# Altium schematic symbol library CompleteLibrary.SchLib: 558 symbols (part 2 of 4)
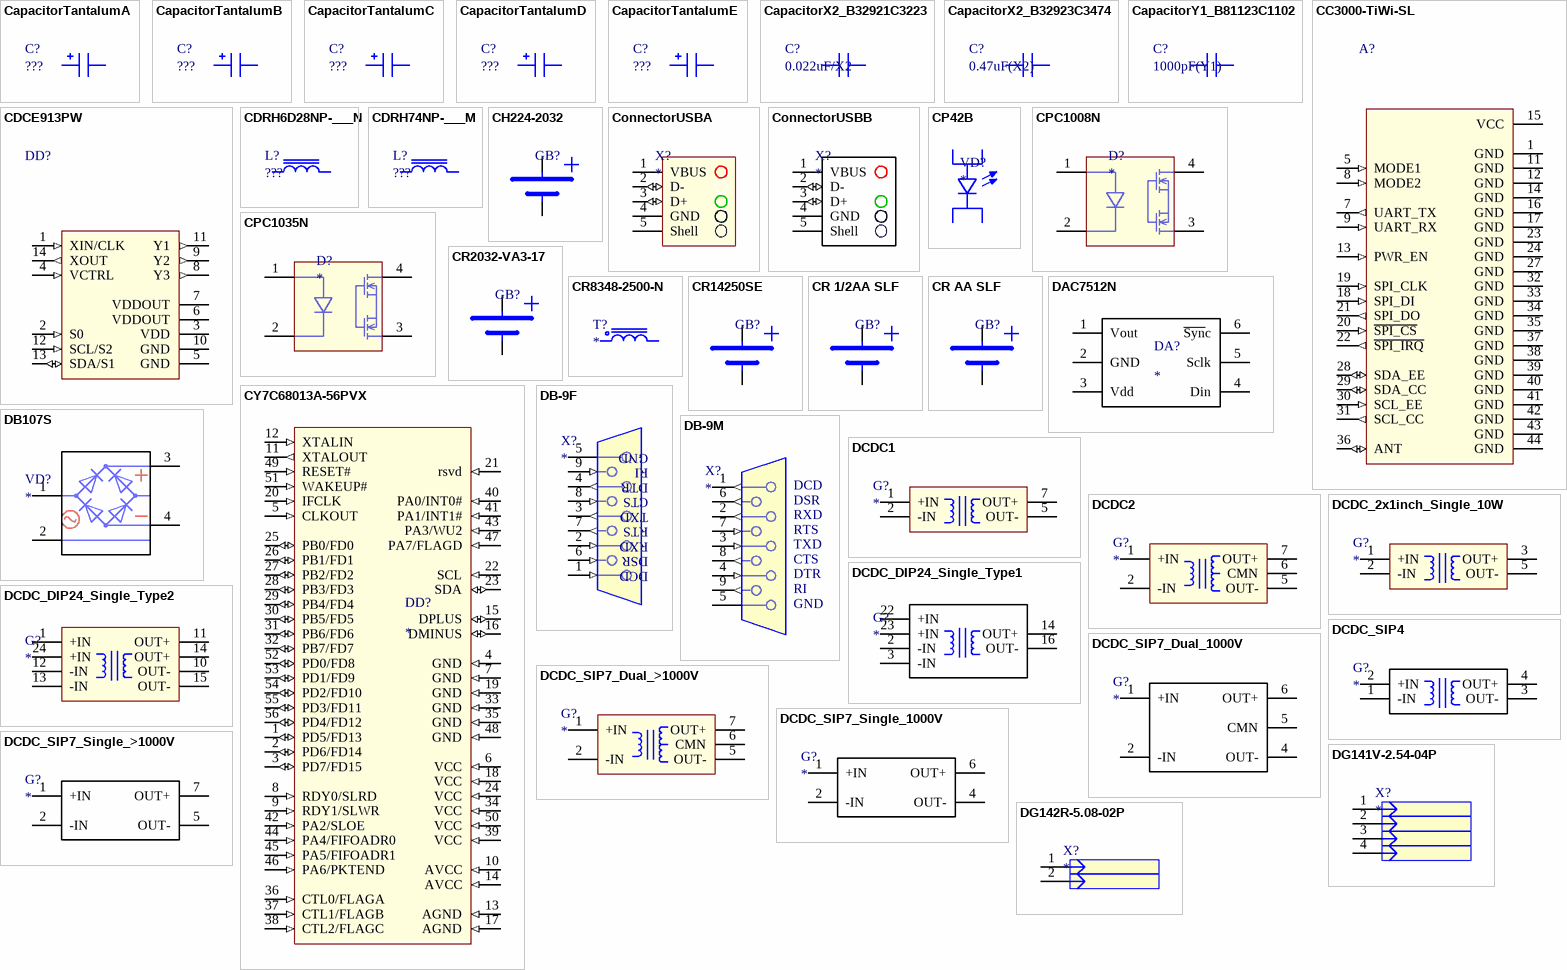
[diagram p26: symbols CapacitorTantalumA to DG142R-5.08-02P]

## CapacitorY1_B81123C1102
designator C?, comment 1000pF(Y1)
CAPACITOR EMI Suppression Capacitor (MKP) Y1 B81123C1102; Описание: Конденсатор Y1; NumberSolderPointsSMD: 0; Аналог: нет; NumberSolderPointsTHT: 0
footprint CapacitorY1_B81123C1102
pins: 1, 2

## CC3000-TiWi-SL
designator A?  (value not drawn)
MODULE RADIO Wi-Fi module; Описание: ???; NumberSolderPointsSMD: 0; Аналог: нет; NumberSolderPointsTHT: 0
footprint CC3000-TiWi-SL
pins: 1 GND (power), 5 MODE1 (in), 7 UART_TX (out), 8 MODE2 (in), 9 UART_RX (in), 11 GND (power), 12 GND (power), 13 PWR_EN (in), 14 GND (power), 15 VCC (power), 16 GND (power), 17 GND (power), 18 SPI_DI (in), 19 SPI_CLK (in), 20 ~{SPI_CS} (in), 21 SPI_DO (out), 22 ~{SPI_IRQ} (out), 23 GND (power), 24 GND (power), 27 GND (power), 28 SDA_EE (io), 29 SDA_CC (io), 30 SCL_EE (in), 31 SCL_CC (out), 32 GND (power), 33 GND (power), 34 GND (power), 35 GND (power), 36 ANT (io), 37 GND (power), 38 GND (power), 39 GND (power), 40 GND (power), 41 GND (power), 42 GND (power), 43 GND (power), 44 GND (power)

## CDCE913PW
designator DD?  (value not drawn)
IC Programmable 1-PLL VCXO Clock Synthesizer; Описание: ???; NumberSolderPointsSMD: 0; Аналог: нет; NumberSolderPointsTHT: 0
footprint TSSOP14_CDCE913
pins: 1 XIN/CLK (in), 2 S0 (in), 3 VDD (power), 4 VCTRL (in), 5 GND (power), 6 VDDOUT (power), 7 VDDOUT (power), 8 Y3 (out), 9 Y2 (out), 10 GND (power), 11 Y1 (out), 12 SCL/S2 (in), 13 SDA/S1 (io), 14 XOUT (out)

## CDRH6D28NP-___N
designator L?, comment ???
MAGNETIC Inductor SMD 6.7x6.7x2.8mm; Описание: Индуктивность SMD; NumberSolderPointsSMD: 0; Аналог: нет; x: CDRH6D28NP-101N = 100uH; NumberSolderPointsTHT: 0
footprint CDRH6D28NP-___N
pins: 1, 2

## CDRH74NP-___M
designator L?, comment ???
MAGNETIC Inductor SMD 7.2x7.2x3.2mm; Описание: Индуктивность SMD; NumberSolderPointsSMD: 0; Аналог: нет; x: CDRH74NP-101M = 100uH; NumberSolderPointsTHT: 0
footprint CDRH74NP-___M
pins: 1, 2

## CH224-2032
designator GB?  (value not drawn)
BATTERY CR2032; Описание: Литиевая батарейка; NumberSolderPointsSMD: 0; Аналог: нет; Комплект: Батарейка CR2032; NumberSolderPointsTHT: 0
footprint CH224-2032
pins: 1 +, 2 -

## ConnectorUSBA
designator X?
CONNECTOR USB type A connector (through-hole); Описание: Разъем; NumberSolderPointsSMD: 0; Аналог: нет; NumberSolderPointsTHT: 0
footprint ConnectorUSBA
pins: 1 VBUS (power), 2 D- (io), 3 D+ (io), 4 GND (power), 5 Shell

## ConnectorUSBB
designator X?
CONNECTOR USB type B connector (through-hole); Описание: Разъем; NumberSolderPointsSMD: 0; Аналог: нет; NumberSolderPointsTHT: 0
footprint ConnectorUSBB
pins: 1 VBUS (power), 2 D- (io), 3 D+ (io), 4 GND (power), 5 Shell

## CP42B
designator VD?
LED Cree P4 LED; Описание: ???; NumberSolderPointsSMD: 0; Аналог: нет; NumberSolderPointsTHT: 0
footprint CP42B
pins: 1, 2, 3, 4

## CPC1008N
designator D?
RELAY 100V 100mA 8Ohm; Описание: ???; NumberSolderPointsSMD: 0; Аналог: нет; NumberSolderPointsTHT: 0
footprint CPC1035N
pins: 1, 2, 3, 4

## CPC1035N
designator D?
RELAY Single-Pole, Normally Open SSR; Описание: ???; NumberSolderPointsSMD: 0; Аналог: нет; NumberSolderPointsTHT: 0
footprint CPC1035N
pins: 1, 2, 3, 4

## CR2032-VA3-17
designator GB?  (value not drawn)
BATTERY CR2032 LiMnO2 battery; Описание: Литиевая батарейка; NumberSolderPointsSMD: 0; Аналог: нет; NumberSolderPointsTHT: 0
footprint CR2032-VA3-17
pins: 1 +, 2 -

## CR8348-2500-N
designator T?
MAGNETIC; Описание: ???; NumberSolderPointsSMD: 0; Аналог: нет; NumberSolderPointsTHT: 0
footprint CR8348-2500-N
pins: 3, 4

## CR14250SE
designator GB?  (value not drawn)
BATTERY CR14250 LiMnO2 battery; Описание: ???; NumberSolderPointsSMD: 0; Аналог: нет; NumberSolderPointsTHT: 0
footprint CR14250SE
pins: 1 +, 2 -

## CR 1/2AA SLF
designator GB?  (value not drawn)
BATTERY CR 1/2AA SLF; Описание: ???; NumberSolderPointsSMD: 0; Аналог: нет; NumberSolderPointsTHT: 0
footprint CR 1/2AA SLF
pins: 1 +, 2 -

## CR AA SLF
designator GB?  (value not drawn)
BATTERY CR AA SLF; Описание: ???; NumberSolderPointsSMD: 0; Аналог: нет; NumberSolderPointsTHT: 0
footprint CR AA SLF
pins: 1 +, 2 -

## CY7C68013A-56PVX
designator DD?
IC USB HS peripheral; Описание: ???; NumberSolderPointsSMD: 0; Аналог: нет; NumberSolderPointsTHT: 0
footprint SSOP56_CY7C68013A
pins: 1 PD5/FD13 (io), 2 PD6/FD14 (io), 3 PD7/FD15 (io), 4 GND (in), 5 CLKOUT (in), 6 VCC (in), 7 GND (in), 8 RDY0/SLRD (in), 9 RDY1/SLWR (in), 10 AVCC (in), 11 XTALOUT (out), 12 XTALIN (in), 13 AGND (in), 14 AVCC (in), 15 DPLUS (io), 16 DMINUS (io), 17 AGND (in), 18 VCC (in), 19 GND (in), 20 IFCLK (in), 21 rsvd (in), 22 SCL (in), 23 SDA (io), 24 VCC (in), 25 PB0/FD0 (io), 26 PB1/FD1 (io), 27 PB2/FD2 (io), 28 PB3/FD3 (io), 29 PB4/FD4 (io), 30 PB5/FD5 (io), 31 PB6/FD6 (io), 32 PB7/FD7 (io), 33 GND (in), 34 VCC (in), 35 GND (in), 36 CTL0/FLAGA (in), 37 CTL1/FLAGB (in), 38 CTL2/FLAGC (in), 39 VCC (in), 40 PA0/INT0# (in), 41 PA1/INT1# (in), 42 PA2/SLOE (in), 43 PA3/WU2 (in), 44 PA4/FIFOADR0 (in), 45 PA5/FIFOADR1 (in), 46 PA6/PKTEND (in), 47 PA7/FLAGD (in), 48 GND (in), 49 RESET# (in), 50 VCC (in), 51 WAKEUP# (in), 52 PD0/FD8 (io), 53 PD1/FD9 (io), 54 PD2/FD10 (io), 55 PD3/FD11 (io), 56 PD4/FD12 (io)

## DAC7512N
designator DA?
IC DAC 12-bit; Описание: ???
footprint SOT23-6
pins: 1 Vout, 2 GND, 3 Vdd, 4 Din, 5 Sclk, 6 ~{Syn}c

## DB107S
designator VD?
DIODE 1A 1000V SMD bridge rectifier; Описание: Диод сборка; NumberSolderPointsSMD: 0; Аналог: нет; NumberSolderPointsTHT: 0
footprint DB107S
pins: 1 AC1, 2 AC2, 3 DC+, 4 DC-

## DB-9F
designator X?
CONNECTOR; Описание: ???; NumberSolderPointsSMD: 0; Аналог: нет; NumberSolderPointsTHT: 0
footprint DB-9F
pins: 1 (in), 2 (in), 3 (out), 4 (out), 5 (power), 6 (in), 7 (out), 8 (in), 9 (in)
text: GND; RI; DTR; CTS; TXD; RTS; RXD; DSR; DCD

## DB-9M
designator X?
CONNECTOR; Описание: ???; NumberSolderPointsSMD: 0; Аналог: нет; NumberSolderPointsTHT: 0
footprint DB-9M
pins: 1 (out), 2 (out), 3 (in), 4 (in), 5 (power), 6 (out), 7 (in), 8 (out), 9 (out)
text: DCD; DSR; RXD; RTS; TXD; CTS; DTR; RI; GND

## DCDC1
designator G?
TEMPLATE dc/dc single output template; Описание: Модуль питания; NumberSolderPointsSMD: 0; Аналог: нет; NumberSolderPointsTHT: 0
pins: 1 +IN (power), 2 -IN (power), 5 OUT- (power), 7 OUT+ (power)

## DCDC2
designator G?
TEMPLATE dc/dc double output template; Описание: Модуль питания; NumberSolderPointsSMD: 0; Аналог: нет; NumberSolderPointsTHT: 0
pins: 1 +IN (power), 2 -IN (power), 5 OUT- (power), 6 CMN (power), 7 OUT+ (power)

## DCDC_2x1inch_Single_10W
designator G?
MODULE POWER Generic DC/DC SIP7-package Single output Generic DC/DC SIP7-package Dual output High isolation; Описание: Модуль питания; NumberSolderPointsSMD: 0; Аналог: нет; NumberSolderPointsTHT: 0
footprint DCDC_10W
pins: 1 +IN (power), 2 -IN (power), 3 OUT+ (power), 5 OUT- (power)

## DCDC_DIP24_Single_Type1
designator G?
MODULE POWER Generic DC/DC DIP24-package Single output Type 1 pinout; Описание: Модуль питания; NumberSolderPointsSMD: 0; Аналог: нет; NumberSolderPointsTHT: 0
footprint DIP24_Type1_DCDC
pins: 2 -IN (power), 3 -IN (power), 14 OUT+ (power), 16 OUT- (power), 22 +IN (power), 23 +IN (power)

## DCDC_DIP24_Single_Type2
designator G?
MODULE POWER Generic DC/DC DIP24-package Single output Type 1 pinout; Описание: Модуль питания; NumberSolderPointsSMD: 0; Аналог: нет; NumberSolderPointsTHT: 0
footprint DIP24_Type2_DCDC
pins: 1 +IN (power), 10 OUT- (power), 11 OUT+ (power), 12 -IN (power), 13 -IN (power), 14 OUT+ (power), 15 OUT- (power), 24 +IN (power)

## DCDC_SIP4
designator G?
MODULE POWER Generic DC/DC SIP4-package  Single output; Описание: Модуль питания; NumberSolderPointsSMD: 0; Аналог: нет; NumberSolderPointsTHT: 0
footprint SIP4_DCDC
pins: 1 -IN (power), 2 +IN (power), 3 OUT- (power), 4 OUT+ (power)

## DCDC_SIP7_Dual_1000V
designator G?
MODULE POWER Generic DC/DC SIP7-package Dual output Low isolation; Описание: Модуль питания; NumberSolderPointsSMD: 0; Аналог: нет; NumberSolderPointsTHT: 0
footprint SIP7_DCDC_Dual_1000V (Low isolation voltage , double output)
pins: 1 +IN (power), 2 -IN (power), 4 OUT- (power), 5 CMN (power), 6 OUT+ (power)

## DCDC_SIP7_Dual_>1000V
designator G?
MODULE POWER Generic DC/DC SIP7-package Dual output High isolation; Описание: Модуль питания; NumberSolderPointsSMD: 0; Аналог: нет; NumberSolderPointsTHT: 0
footprint SIP7_DCDC_Dual_>1000V (High isolation voltage , double output)
pins: 1 +IN (power), 2 -IN (power), 5 OUT- (power), 6 CMN (power), 7 OUT+ (power)

## DCDC_SIP7_Single_1000V
designator G?
MODULE POWER Generic DC/DC SIP7-package Single output Generic DC/DC SIP7-package Dual output Low isolation; Описание: Модуль питания; NumberSolderPointsSMD: 0; Аналог: нет; NumberSolderPointsTHT: 0
footprint SIP7_DCDC_Single_1000V (Low isolation voltage , single output)
pins: 1 +IN (power), 2 -IN (power), 4 OUT- (power), 6 OUT+ (power)

## DCDC_SIP7_Single_>1000V
designator G?
MODULE POWER Generic DC/DC SIP7-package Single output Generic DC/DC SIP7-package Dual output High isolation; Описание: Модуль питания; NumberSolderPointsSMD: 0; Аналог: нет; NumberSolderPointsTHT: 0
footprint SIP7_DCDC_Single_>1000V (High isolation voltage , single output)
pins: 1 +IN (power), 2 -IN (power), 5 OUT- (power), 7 OUT+ (power)

## DG141V-2.54-04P
designator X?
CONNECTOR TERMINAL pitch=2.54mm; Описание: ???; NumberSolderPointsSMD: 0; Аналог: нет; NumberSolderPointsTHT: 0
footprint DG141V-2.54-04P
pins: 1, 2, 3, 4

## DG142R-5.08-02P
designator X?
CONNECTOR TERMINAL; Описание: ???; NumberSolderPointsSMD: 0; Аналог: нет; NumberSolderPointsTHT: 0
footprint DG142R-5.08-02P
pins: 1, 2

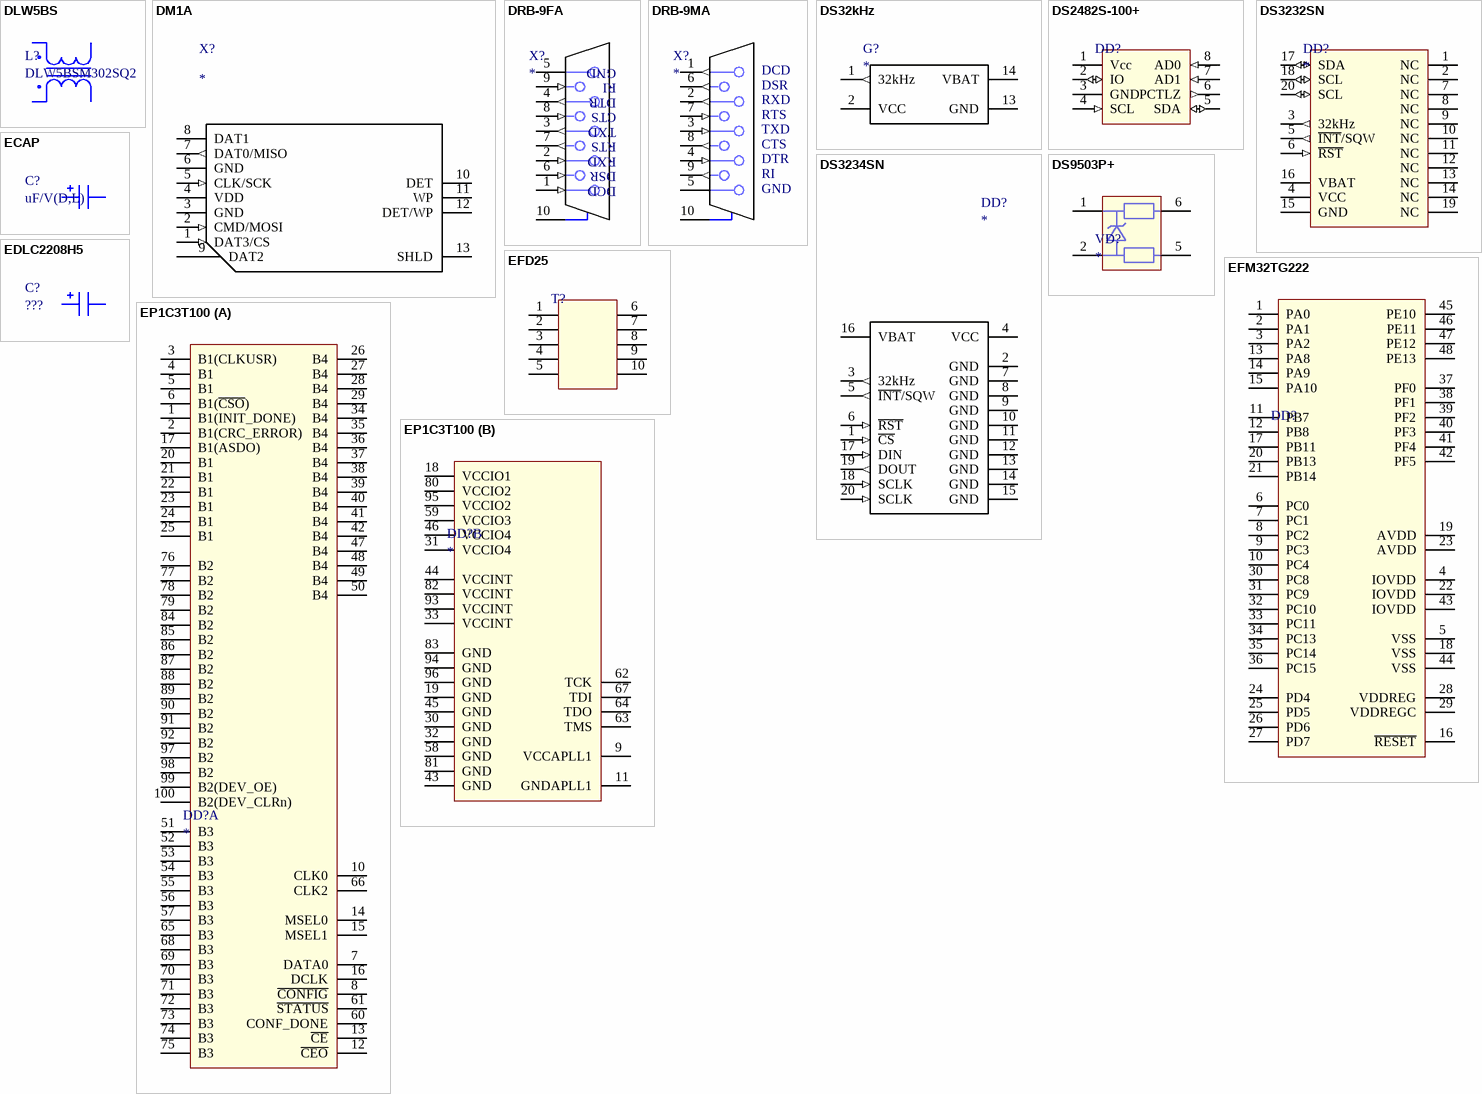
[diagram p9: symbols DLW5BS to EP1C3T100]

## DLW5BS
designator L?, comment DLW5BSM302SQ2
MAGNETIC Chip common mode choke; Описание: ???; NumberSolderPointsSMD: 0; Аналог: нет; NumberSolderPointsTHT: 0
footprint DLW5BS
pins: 1, 2, 3, 4

## DM1A
designator X?
CONNECTOR SD card connector; Описание: ???; NumberSolderPointsSMD: 0; Аналог: нет; NumberSolderPointsTHT: 0
footprint DM1A (SD card connector)
pins: 1 DAT3/CS (in), 2 CMD/MOSI (in), 3 GND, 4 VDD, 5 CLK/SCK (in), 6 GND, 7 DAT0/MISO (out), 8 DAT1, 9 DAT2, 10 DET, 11 WP, 12 DET/WP, 13 SHLD

## DRB-9FA
designator X?
CONNECTOR; Описание: ???; NumberSolderPointsSMD: 0; Аналог: нет; NumberSolderPointsTHT: 0
footprint DRB-9FA
pins: 1 (in), 2 (in), 3 (out), 4 (out), 5 (power), 6 (in), 7 (out), 8 (in), 9 (in), 10
text: GND; RI; DTR; CTS; TXD; RTS; RXD; DSR; DCD

## DRB-9MA
designator X?
CONNECTOR; Описание: ???; NumberSolderPointsSMD: 0; Аналог: нет; NumberSolderPointsTHT: 0
footprint DRB-9MA
pins: 1 (out), 2 (out), 3 (in), 4 (in), 5 (power), 6 (out), 7 (in), 8 (out), 9 (out), 10
text: DCD; DSR; RXD; RTS; TXD; CTS; DTR; RI; GND

## DS32kHz
designator G?
OSCILLATOR TCXO 32kHz; Описание: Микросхема SO16; NumberSolderPointsSMD: 0; Аналог: нет; NumberSolderPointsTHT: 0
footprint SO16W
pins: 1 32kHz (out), 2 VCC (power), 13 GND (power), 14 VBAT (power)

## DS2482S-100+
designator DD?  (value not drawn)
IC Single-Channel 1-Wire Master; Описание: Микросхема SO-8; NumberSolderPointsSMD: 0; Аналог: нет; NumberSolderPointsTHT: 0
footprint SO8
pins: 1 Vcc (power), 2 IO (io), 3 GND (power), 4 SCL (in), 5 SDA (io), 6 PCTLZ (out), 7 AD1 (in), 8 AD0 (in)

## DS3232SN
designator DD?
IC Extremely Accurate I2C RTC with  Integrated Crystal and SRAM; Описание: ???; NumberSolderPointsSMD: 0; Аналог: нет; NumberSolderPointsTHT: 0
footprint SO20W
pins: 1 NC, 2 NC, 3 32kHz (out), 4 VCC (power), 5 ~{INT}/SQW (out), 6 ~{RST} (in), 7 NC, 8 NC, 9 NC, 10 NC, 11 NC, 12 NC, 13 NC, 14 NC, 15 GND (power), 16 VBAT (power), 17 SDA (io), 18 SCL (io), 19 NC, 20 SCL (io)

## DS3234SN
designator DD?
IC Extremely Accurate SPI Bus RTC with Integrated Crystal and SRAM; Описание: ???; NumberSolderPointsSMD: 0; Аналог: нет; NumberSolderPointsTHT: 0
footprint SO20W
pins: 1 ~{CS} (in), 2 GND (power), 3 32kHz (out), 4 VCC (power), 5 ~{INT}/SQW (out), 6 ~{RST} (in), 7 GND (power), 8 GND (power), 9 GND (power), 10 GND (power), 11 GND (power), 12 GND (power), 13 GND (power), 14 GND (power), 15 GND (power), 16 VBAT (power), 17 DIN (in), 18 SCLK (in), 19 DOUT (out), 20 SCLK (in)

## DS9503P+
designator VD?
DIODE 1-wire ESD protection; Описание: Диод TSOC6; NumberSolderPointsSMD: 0; Аналог: нет; NumberSolderPointsTHT: 0
footprint TSOC6
pins: 1, 2, 5, 6

## ECAP
designator C?, comment uF/V(D,L)
CAPACITOR ECAP generic; Описание: Конденсатор электролитический; NumberSolderPointsSMD: 0; NumberSolderPointsTHT: 2; Аналог: нет; x: *
footprint ECAP_D10_L19.5_VERTICAL
pins: 1, 2

## EDLC2208H5
designator C?, comment ???
CAPACITOR EDLC 1.5F 5.5V (elna,panasonic,korchip,...); NumberSolderPointsSMD: 0; Аналог: нет; Описание: ???; NumberSolderPointsTHT: 0
footprint EDLC2208H5
pins: 1, 2

## EFD25
designator T?  (value not drawn)
MAGNETIC Epcos EFD25 coil former B66422W1010D001; Описание: ???; NumberSolderPointsSMD: 0; Аналог: нет; NumberSolderPointsTHT: 0
footprint B66422W1010D001
pins: 1  , 2  , 3  , 4  , 5  , 6  , 7  , 8  , 9  , 10  

## EFM32TG222
designator DD?  (value not drawn)
IC Cortex-M3; Описание: ???; NumberSolderPointsSMD: 0; Аналог: нет; NumberSolderPointsTHT: 0
footprint QFP48_EFM32
pins: 1 PA0, 2 PA1, 3 PA2, 4 IOVDD, 5 VSS, 6 PC0, 7 PC1, 8 PC2, 9 PC3, 10 PC4, 11 PB7, 12 PB8, 13 PA8, 14 PA9, 15 PA10, 16 ~{RESET}, 17 PB11, 18 VSS, 19 AVDD, 20 PB13, 21 PB14, 22 IOVDD, 23 AVDD, 24 PD4, 25 PD5, 26 PD6, 27 PD7, 28 VDDREG, 29 VDDREGC, 30 PC8, 31 PC9, 32 PC10, 33 PC11, 34 PC13, 35 PC14, 36 PC15, 37 PF0, 38 PF1, 39 PF2, 40 PF3, 41 PF4, 42 PF5, 43 IOVDD, 44 VSS, 45 PE10, 46 PE11, 47 PE12, 48 PE13

## EP1C3T100
designator DD?
IC Altera Cyclone1 FPGA; Описание: ???; NumberSolderPointsSMD: 0; Аналог: нет; NumberSolderPointsTHT: 0
footprint TQFP100
part A pins: 1 B1(INIT_DONE), 2 B1(CRC_ERROR), 3 B1(CLKUSR), 4 B1, 5 B1, 6 B1(~{CSO}), 7 DATA0, 8 ~{CONFIG}, 10 CLK0, 12 ~{CEO}, 13 ~{CE}, 14 MSEL0, 15 MSEL1, 16 DCLK, 17 B1(ASDO), 20 B1, 21 B1, 22 B1, 23 B1, 24 B1, 25 B1, 26 B4, 27 B4, 28 B4, 29 B4, 34 B4, 35 B4, 36 B4, 37 B4, 38 B4, 39 B4, 40 B4, 41 B4, 42 B4, 47 B4, 48 B4, 49 B4, 50 B4, 51 B3, 52 B3, 53 B3, 54 B3, 55 B3, 56 B3, 57 B3, 60 CONF_DONE, 61 ~{STATUS}, 65 B3, 66 CLK2, 68 B3, 69 B3, 70 B3, 71 B3, 72 B3, 73 B3, 74 B3, 75 B3, 76 B2, 77 B2, 78 B2, 79 B2, 84 B2, 85 B2, 86 B2, 87 B2, 88 B2, 89 B2, 90 B2, 91 B2, 92 B2, 97 B2, 98 B2, 99 B2(DEV_OE), 100 B2(DEV_CLRn)
part B pins: 9 VCCAPLL1, 11 GNDAPLL1, 18 VCCIO1, 19 GND, 30 GND, 31 VCCIO4, 32 GND, 33 VCCINT, 43 GND, 44 VCCINT, 45 GND, 46 VCCIO4, 58 GND, 59 VCCIO3, 62 TCK, 63 TMS, 64 TDO, 67 TDI, 80 VCCIO2, 81 GND, 82 VCCINT, 83 GND, 93 VCCINT, 94 GND, 95 VCCIO2, 96 GND

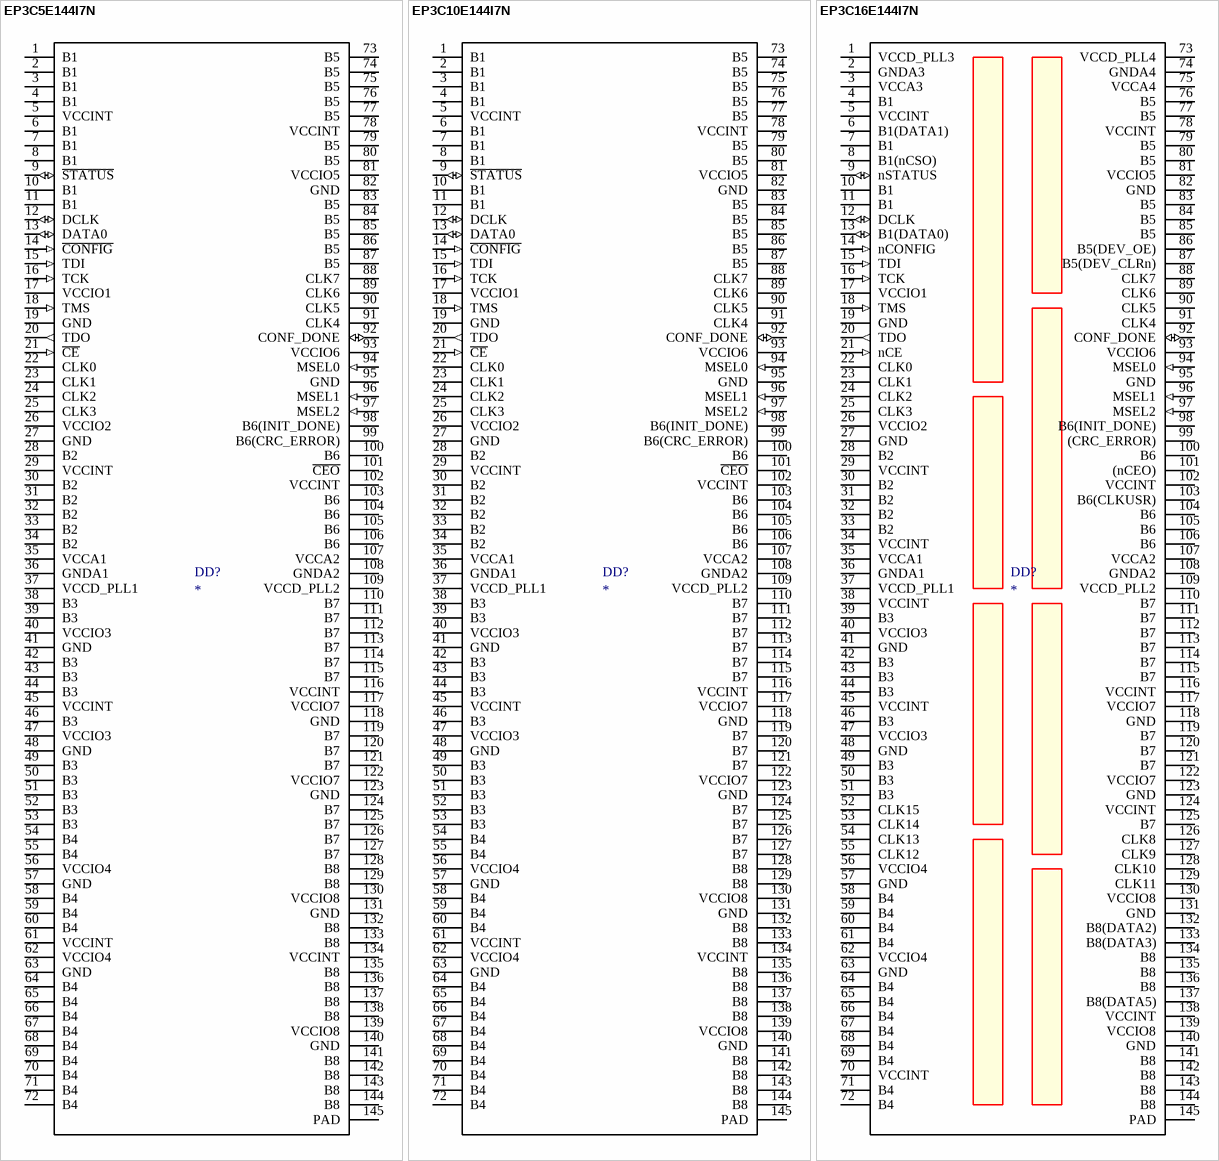
[diagram p10: symbols EP3C5E144I7N to EP3C16E144I7N]

## EP3C5E144I7N
designator DD?
IC Cyclone III; Описание: Микросхема EQFP144; NumberSolderPointsSMD: 0; Аналог: нет; NumberSolderPointsTHT: 0
footprint EQFP144_EP3C5
pins: 1 B1, 2 B1, 3 B1, 4 B1, 5 VCCINT, 6 B1, 7 B1, 8 B1, 9 ~{STATUS} (io), 10 B1, 11 B1, 12 DCLK (io), 13 DATA0 (io), 14 ~{CONFIG} (in), 15 TDI (in), 16 TCK (in), 17 VCCIO1, 18 TMS (in), 19 GND, 20 TDO (out), 21 ~{CE} (in), 22 CLK0, 23 CLK1, 24 CLK2, 25 CLK3, 26 VCCIO2, 27 GND, 28 B2, 29 VCCINT, 30 B2, 31 B2, 32 B2, 33 B2, 34 B2, 35 VCCA1, 36 GNDA1, 37 VCCD_PLL1, 38 B3, 39 B3, 40 VCCIO3, 41 GND, 42 B3, 43 B3, 44 B3, 45 VCCINT, 46 B3, 47 VCCIO3, 48 GND, 49 B3, 50 B3, 51 B3, 52 B3, 53 B3, 54 B4, 55 B4, 56 VCCIO4, 57 GND, 58 B4, 59 B4, 60 B4, 61 VCCINT, 62 VCCIO4, 63 GND, 64 B4, 65 B4, 66 B4, 67 B4, 68 B4, 69 B4, 70 B4, 71 B4, 72 B4, 73 B5, 74 B5, 75 B5, 76 B5, 77 B5, 78 VCCINT, 79 B5, 80 B5, 81 VCCIO5, 82 GND, 83 B5, 84 B5, 85 B5, 86 B5, 87 B5, 88 CLK7, 89 CLK6, 90 CLK5, 91 CLK4, 92 CONF_DONE (io), 93 VCCIO6, 94 MSEL0 (in), 95 GND, 96 MSEL1 (in), 97 MSEL2 (in), 98 B6(INIT_DONE), 99 B6(CRC_ERROR), 100 B6, 101 ~{CEO}, 102 VCCINT, 103 B6, 104 B6, 105 B6, 106 B6, 107 VCCA2, 108 GNDA2, 109 VCCD_PLL2, 110 B7, 111 B7, 112 B7, 113 B7, 114 B7, 115 B7, 116 VCCINT, 117 VCCIO7, 118 GND, 119 B7, 120 B7, 121 B7, 122 VCCIO7, 123 GND, 124 B7, 125 B7, 126 B7, 127 B7, 128 B8, 129 B8, 130 VCCIO8, 131 GND, 132 B8, 133 B8, 134 VCCINT, 135 B8, 136 B8, 137 B8, 138 B8, 139 VCCIO8, 140 GND, 141 B8, 142 B8, 143 B8, 144 B8, 145 PAD

## EP3C10E144I7N
designator DD?
IC Cyclone III; Описание: Микросхема EQFP144; NumberSolderPointsSMD: 0; Аналог: нет; NumberSolderPointsTHT: 0
footprint EQFP144_EP3C5
pins: 1 B1, 2 B1, 3 B1, 4 B1, 5 VCCINT, 6 B1, 7 B1, 8 B1, 9 ~{STATUS} (io), 10 B1, 11 B1, 12 DCLK (io), 13 DATA0 (io), 14 ~{CONFIG} (in), 15 TDI (in), 16 TCK (in), 17 VCCIO1, 18 TMS (in), 19 GND, 20 TDO (out), 21 ~{CE} (in), 22 CLK0, 23 CLK1, 24 CLK2, 25 CLK3, 26 VCCIO2, 27 GND, 28 B2, 29 VCCINT, 30 B2, 31 B2, 32 B2, 33 B2, 34 B2, 35 VCCA1, 36 GNDA1, 37 VCCD_PLL1, 38 B3, 39 B3, 40 VCCIO3, 41 GND, 42 B3, 43 B3, 44 B3, 45 VCCINT, 46 B3, 47 VCCIO3, 48 GND, 49 B3, 50 B3, 51 B3, 52 B3, 53 B3, 54 B4, 55 B4, 56 VCCIO4, 57 GND, 58 B4, 59 B4, 60 B4, 61 VCCINT, 62 VCCIO4, 63 GND, 64 B4, 65 B4, 66 B4, 67 B4, 68 B4, 69 B4, 70 B4, 71 B4, 72 B4, 73 B5, 74 B5, 75 B5, 76 B5, 77 B5, 78 VCCINT, 79 B5, 80 B5, 81 VCCIO5, 82 GND, 83 B5, 84 B5, 85 B5, 86 B5, 87 B5, 88 CLK7, 89 CLK6, 90 CLK5, 91 CLK4, 92 CONF_DONE (io), 93 VCCIO6, 94 MSEL0 (in), 95 GND, 96 MSEL1 (in), 97 MSEL2 (in), 98 B6(INIT_DONE), 99 B6(CRC_ERROR), 100 B6, 101 ~{CEO}, 102 VCCINT, 103 B6, 104 B6, 105 B6, 106 B6, 107 VCCA2, 108 GNDA2, 109 VCCD_PLL2, 110 B7, 111 B7, 112 B7, 113 B7, 114 B7, 115 B7, 116 VCCINT, 117 VCCIO7, 118 GND, 119 B7, 120 B7, 121 B7, 122 VCCIO7, 123 GND, 124 B7, 125 B7, 126 B7, 127 B7, 128 B8, 129 B8, 130 VCCIO8, 131 GND, 132 B8, 133 B8, 134 VCCINT, 135 B8, 136 B8, 137 B8, 138 B8, 139 VCCIO8, 140 GND, 141 B8, 142 B8, 143 B8, 144 B8, 145 PAD

## EP3C16E144I7N
designator DD?
IC Cyclone III; Описание: Микросхема EQFP144; NumberSolderPointsSMD: 0; Аналог: нет; NumberSolderPointsTHT: 0
footprint EQFP144_EP3C25
pins: 1 VCCD_PLL3, 2 GNDA3, 3 VCCA3, 4 B1, 5 VCCINT, 6 B1(DATA1), 7 B1, 8 B1(nCSO), 9 nSTATUS (io), 10 B1, 11 B1, 12 DCLK (io), 13 B1(DATA0) (io), 14 nCONFIG (in), 15 TDI (in), 16 TCK (in), 17 VCCIO1, 18 TMS (in), 19 GND, 20 TDO (out), 21 nCE (in), 22 CLK0, 23 CLK1, 24 CLK2, 25 CLK3, 26 VCCIO2, 27 GND, 28 B2, 29 VCCINT, 30 B2, 31 B2, 32 B2, 33 B2, 34 VCCINT, 35 VCCA1, 36 GNDA1, 37 VCCD_PLL1, 38 VCCINT, 39 B3, 40 VCCIO3, 41 GND, 42 B3, 43 B3, 44 B3, 45 VCCINT, 46 B3, 47 VCCIO3, 48 GND, 49 B3, 50 B3, 51 B3, 52 CLK15, 53 CLK14, 54 CLK13, 55 CLK12, 56 VCCIO4, 57 GND, 58 B4, 59 B4, 60 B4, 61 B4, 62 VCCIO4, 63 GND, 64 B4, 65 B4, 66 B4, 67 B4, 68 B4, 69 B4, 70 VCCINT, 71 B4, 72 B4, 73 VCCD_PLL4, 74 GNDA4, 75 VCCA4, 76 B5, 77 B5, 78 VCCINT, 79 B5, 80 B5, 81 VCCIO5, 82 GND, 83 B5, 84 B5, 85 B5, 86 B5(DEV_OE), 87 B5(DEV_CLRn), 88 CLK7, 89 CLK6, 90 CLK5, 91 CLK4, 92 CONF_DONE (io), 93 VCCIO6, 94 MSEL0 (in), 95 GND, 96 MSEL1 (in), 97 MSEL2 (in), 98 B6(INIT_DONE), 99 (CRC_ERROR), 100 B6, 101 (nCEO), 102 VCCINT, 103 B6(CLKUSR), 104 B6, 105 B6, 106 B6, 107 VCCA2, 108 GNDA2, 109 VCCD_PLL2, 110 B7, 111 B7, 112 B7, 113 B7, 114 B7, 115 B7, 116 VCCINT, 117 VCCIO7, 118 GND, 119 B7, 120 B7, 121 B7, 122 VCCIO7, 123 GND, 124 VCCINT, 125 B7, 126 CLK8, 127 CLK9, 128 CLK10, 129 CLK11, 130 VCCIO8, 131 GND, 132 B8(DATA2), 133 B8(DATA3), 134 B8, 135 B8, 136 B8, 137 B8(DATA5), 138 VCCINT, 139 VCCIO8, 140 GND, 141 B8, 142 B8, 143 B8, 144 B8, 145 PAD

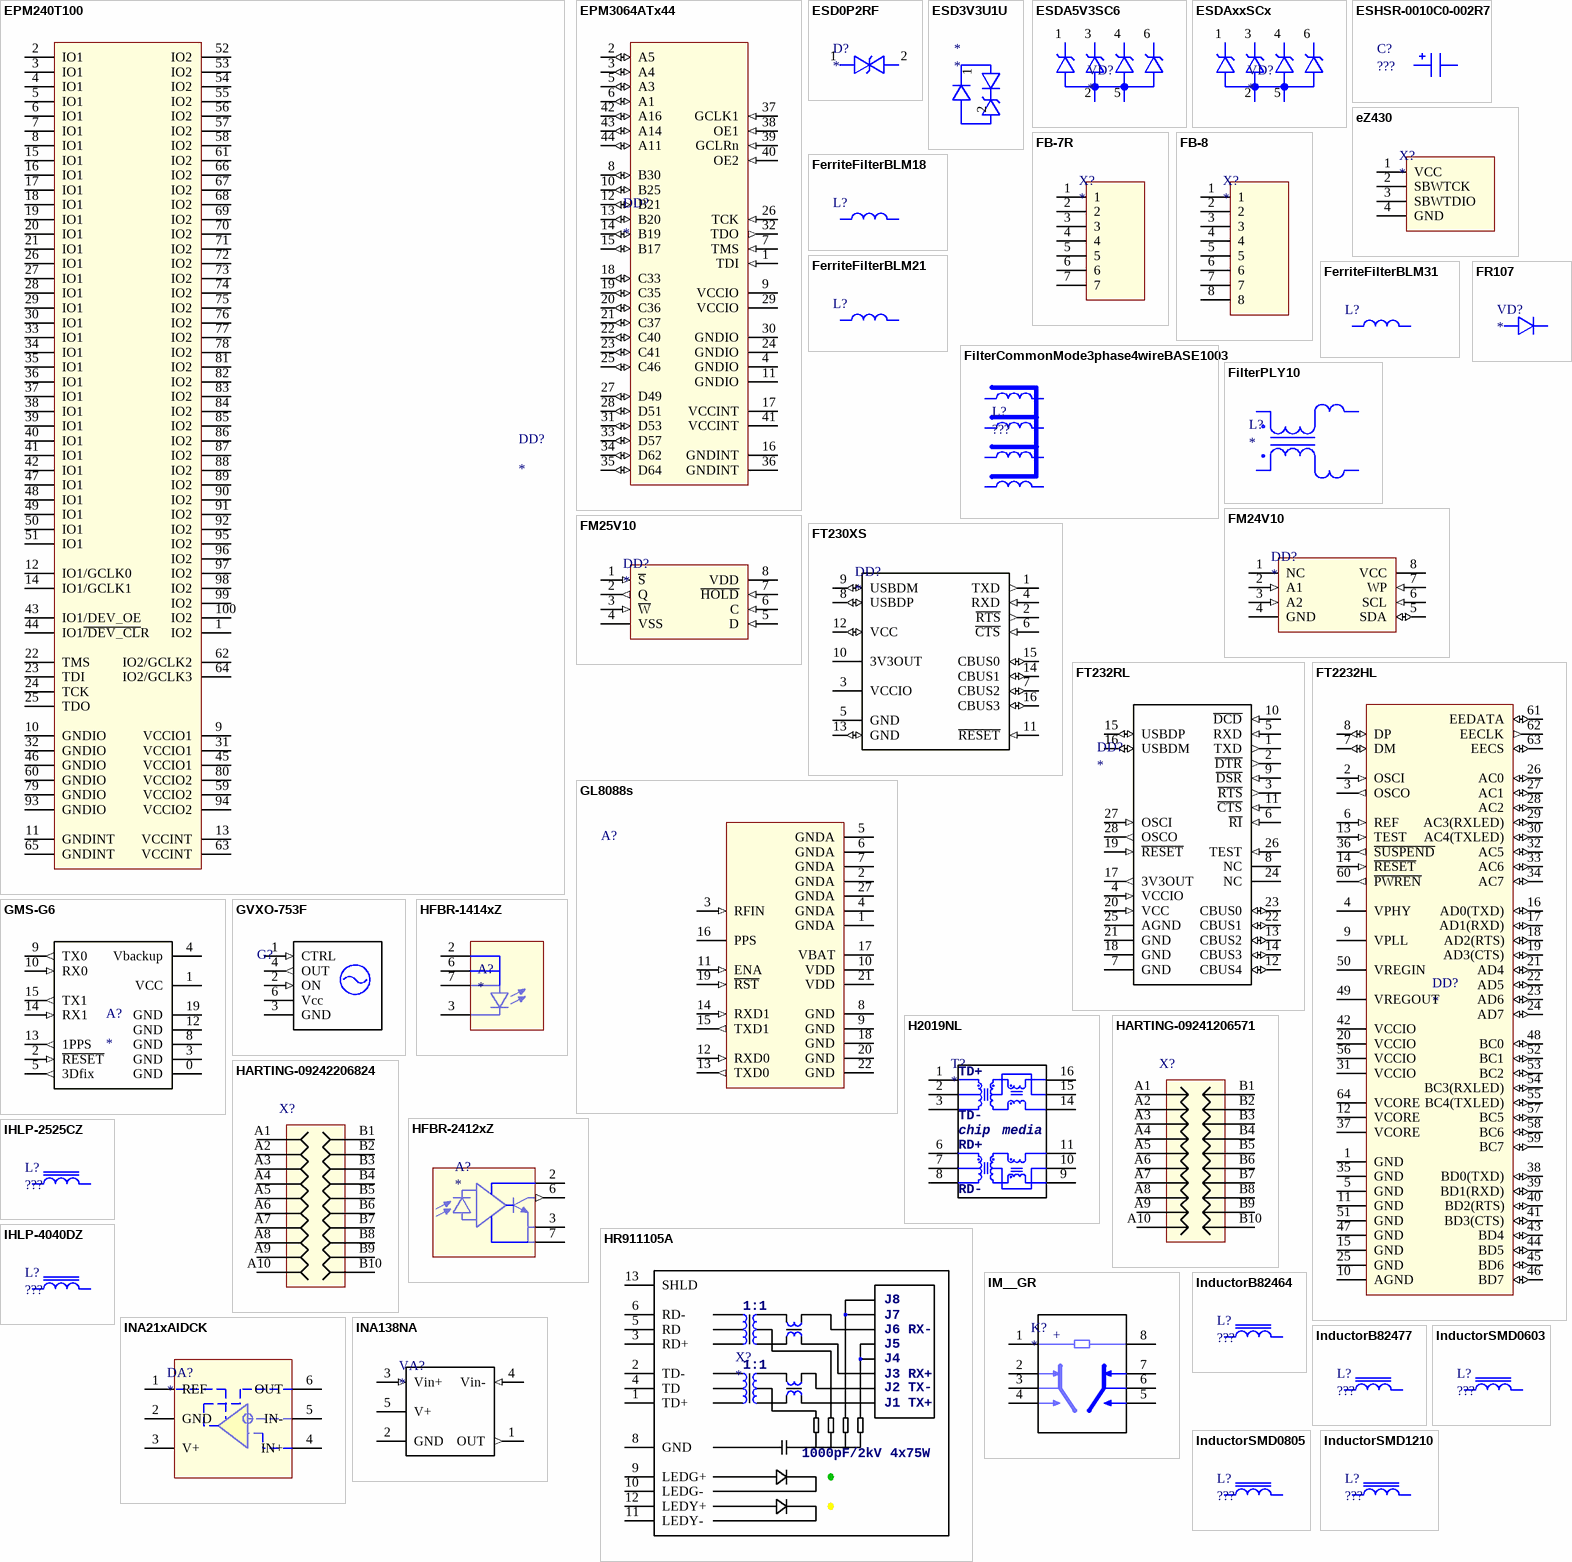
[diagram p11: symbols EPM240T100 to InductorSMD1210]

## EPM240T100
designator DD?
IC MAXII CPLD; Описание: ???; NumberSolderPointsSMD: 0; Аналог: нет; NumberSolderPointsTHT: 0
footprint TQFP100
pins: 1 IO2, 2 IO1, 3 IO1, 4 IO1, 5 IO1, 6 IO1, 7 IO1, 8 IO1, 9 VCCIO1, 10 GNDIO, 11 GNDINT, 12 IO1/GCLK0, 13 VCCINT, 14 IO1/GCLK1, 15 IO1, 16 IO1, 17 IO1, 18 IO1, 19 IO1, 20 IO1, 21 IO1, 22 TMS, 23 TDI, 24 TCK, 25 TDO, 26 IO1, 27 IO1, 28 IO1, 29 IO1, 30 IO1, 31 VCCIO1, 32 GNDIO, 33 IO1, 34 IO1, 35 IO1, 36 IO1, 37 IO1, 38 IO1, 39 IO1, 40 IO1, 41 IO1, 42 IO1, 43 IO1/DEV_OE, 44 IO1~{/DEV_CL}R, 45 VCCIO1, 46 GNDIO, 47 IO1, 48 IO1, 49 IO1, 50 IO1, 51 IO1, 52 IO2, 53 IO2, 54 IO2, 55 IO2, 56 IO2, 57 IO2, 58 IO2, 59 VCCIO2, 60 GNDIO, 61 IO2, 62 IO2/GCLK2, 63 VCCINT, 64 IO2/GCLK3, 65 GNDINT, 66 IO2, 67 IO2, 68 IO2, 69 IO2, 70 IO2, 71 IO2, 72 IO2, 73 IO2, 74 IO2, 75 IO2, 76 IO2, 77 IO2, 78 IO2, 79 GNDIO, 80 VCCIO2, 81 IO2, 82 IO2, 83 IO2, 84 IO2, 85 IO2, 86 IO2, 87 IO2, 88 IO2, 89 IO2, 90 IO2, 91 IO2, 92 IO2, 93 GNDIO, 94 VCCIO2, 95 IO2, 96 IO2, 97 IO2, 98 IO2, 99 IO2, 100 IO2

## EPM3064ATx44
designator DD?
IC Low-cost CMOS EEPROM–based CPLD; Описание: ???; NumberSolderPointsSMD: 0; Аналог: нет; NumberSolderPointsTHT: 0
footprint TQFP44_EPM30xxA
pins: 1 TDI (in), 2 A5 (io), 3 A4 (io), 4 GNDIO (power), 5 A3 (io), 6 A1 (io), 7 TMS (in), 8 B30 (io), 9 VCCIO (power), 10 B25 (io), 11 GNDIO (power), 12 B21 (io), 13 B20 (io), 14 B19 (io), 15 B17 (io), 16 GNDINT (power), 17 VCCINT (power), 18 C33 (io), 19 C35 (io), 20 C36 (io), 21 C37 (io), 22 C40 (io), 23 C41 (io), 24 GNDIO (power), 25 C46 (io), 26 TCK (in), 27 D49 (io), 28 D51 (io), 29 VCCIO (power), 30 GNDIO (power), 31 D53 (io), 32 TDO (out), 33 D57 (io), 34 D62 (io), 35 D64 (io), 36 GNDINT (power), 37 GCLK1 (in), 38 OE1 (in), 39 GCLRn (in), 40 OE2 (in), 41 VCCINT (power), 42 A16 (io), 43 A14 (io), 44 A11 (io)

## ESD0P2RF
designator D?
DIODE TVS directional Ultra Low Capacitance TVS Diode; Описание: ???; NumberSolderPointsSMD: 0; Аналог: нет; NumberSolderPointsTHT: 0
footprint TSLP-2-17
pins: 1, 2

## ESD3V3U1U
designator *
DIODE TVS Ultra-Low Capacitance TVS Diode; Описание: ???; NumberSolderPointsSMD: 0; Аналог: нет; NumberSolderPointsTHT: 0
footprint TSLP-2-17
pins: 1, 2

## ESDA5V3SC6
designator VD?
DIODE TVS; Описание: ???; NumberSolderPointsSMD: 0; Аналог: нет; NumberSolderPointsTHT: 0
footprint SOT23-6
pins: 1, 2, 3, 4, 5, 6

## ESDAxxSCx
designator VD?
DIODE TVS Quad Transil array for ESD protection; Описание: ???; NumberSolderPointsSMD: 0; Аналог: нет; NumberSolderPointsTHT: 0
footprint SOT23-6
pins: 1, 2, 3, 4, 5, 6

## ESHSR-0010C0-002R7
designator C?, comment ???
CAPACITOR Supercapacitor 10F; NumberSolderPointsSMD: 0; Аналог: нет; Описание: ???; NumberSolderPointsTHT: 0
footprint ESHSR-0010C0-002R7
pins: 1, 2

## eZ430
designator X?
CONNECTOR PROGRAM; Описание: ???; NumberSolderPointsSMD: 0; Аналог: нет; NumberSolderPointsTHT: 0
footprint eZ430
pins: 1 VCC, 2 SBWTCK, 3 SBWTDIO, 4 GND

## FB-7R
designator X?
CONNECTOR FFC pitch=2.54mm; Описание: ???; NumberSolderPointsSMD: 0; Аналог: нет; NumberSolderPointsTHT: 0
footprint FB-7R
pins: 1, 2, 3, 4, 5, 6, 7

## FB-8
designator X?
CONNECTOR FFC pitch=2.54mm; Описание: ???; NumberSolderPointsSMD: 0; Аналог: нет; NumberSolderPointsTHT: 0
footprint FB-8
pins: 1, 2, 3, 4, 5, 6, 7, 8

## FerriteFilterBLM18
designator L?  (value not drawn)
MAGNETIC BLM18 series ferrite bead SMD 0603; Описание: Фильтр SMD 0603; NumberSolderPointsSMD: 0; Аналог: нет; NumberSolderPointsTHT: 0
footprint InductorSMD0603(reflow)
pins: 1, 2

## FerriteFilterBLM21
designator L?  (value not drawn)
MAGNETIC BLM21 series ferrite bead SMD 0805; Описание: Фильтр SMD 0805; NumberSolderPointsSMD: 0; Аналог: нет; NumberSolderPointsTHT: 0
footprint InductorSMD0805(reflow)
pins: 1, 2

## FerriteFilterBLM31
designator L?  (value not drawn)
MAGNETIC BLM31 series ferrite bead SMD 1206; Описание: Фильтр SMD 1206; NumberSolderPointsSMD: 0; Аналог: нет; NumberSolderPointsTHT: 0
footprint InductorSMD1206(reflow)
pins: 1, 2

## FilterCommonMode3phase4wireBASE1003
designator L?, comment ???
MAGNETIC Inductor SMD 0805; NumberSolderPointsSMD: 0; Аналог: нет; Описание: ???; NumberSolderPointsTHT: 0
footprint BEC_BASE1003
pins: 2, 3, 4, 5, 8, 9, 10, 11

## FilterPLY10
designator L?
MAGNETIC Mains filter; Описание: ???; NumberSolderPointsSMD: 0; Аналог: нет; NumberSolderPointsTHT: 0
footprint PLY10
pins: 1, 2, 3, 4

## FM24V10
designator DD?
IC 1Mb Serial 3V F-RAM Memory; Описание: ???; NumberSolderPointsSMD: 0; Аналог: нет; NumberSolderPointsTHT: 0
footprint SO8
pins: 1 NC, 2 A1 (in), 3 A2 (in), 4 GND (power), 5 SDA (io), 6 SCL (in), 7 WP (in), 8 VCC (power)

## FM25V10
designator DD?
IC 1Mb Serial 3V F-RAM Memory; Описание: ???; NumberSolderPointsSMD: 0; Аналог: нет; NumberSolderPointsTHT: 0
footprint SO8
pins: 1 ~{S} (in), 2 Q (out), 3 ~{W} (in), 4 VSS (power), 5 D (in), 6 C (in), 7 ~{HOLD} (in), 8 VDD (power)

## FR107
designator VD?
DIODE 1.0 fast recovery rectifier; Описание: ???; NumberSolderPointsSMD: 0; Аналог: нет; NumberSolderPointsTHT: 0
footprint DO41_FR107
pins: 1, 2

## FT230XS
designator DD?
IC Full Speed USB to Basic UART; Описание: Микросхема SSOP16; NumberSolderPointsSMD: 0; Аналог: нет; NumberSolderPointsTHT: 0; x: *
footprint SSOP16
pins: 1 TXD (out), 2 ~{RTS} (out), 3 VCCIO (power), 4 RXD (in), 5 GND (power), 6 ~{CTS} (in), 7 CBUS2 (io), 8 USBDP (io), 9 USBDM (io), 10 3V3OUT (power), 11 ~{RESET} (in), 12 VCC (io), 13 GND (io), 14 CBUS1 (io), 15 CBUS0 (io), 16 CBUS3 (io)

## FT232RL
designator DD?
IC USB UART IC; Описание: Микросхема SSOP28; NumberSolderPointsSMD: 0; Аналог: нет; NumberSolderPointsTHT: 0
footprint SSOP28_FT232RL
pins: 1 TXD (out), 2 ~{DTR} (out), 3 ~{RTS} (out), 4 VCCIO (in), 5 RXD (in), 6 ~{RI} (in), 7 GND (power), 8 NC, 9 ~{DSR} (in), 10 ~{DCD} (in), 11 ~{CTS} (in), 12 CBUS4 (io), 13 CBUS2 (io), 14 CBUS3 (io), 15 USBDP (io), 16 USBDM (io), 17 3V3OUT (out), 18 GND (power), 19 ~{RESET} (in), 20 VCC (in), 21 GND (power), 22 CBUS1 (io), 23 CBUS0 (io), 24 NC, 25 AGND (power), 26 TEST (in), 27 OSCI (in), 28 OSCO (out)

## FT2232HL
designator DD?
IC Dual High Speed USB to Multipurpose UART/FIFO IC; Описание: ???; NumberSolderPointsSMD: 0; Аналог: нет; NumberSolderPointsTHT: 0
footprint LQFP64_FT2232HL
pins: 1 GND (power), 2 OSCI (in), 3 OSCO (out), 4 VPHY (power), 5 GND (power), 6 REF (in), 7 DM (io), 8 DP (io), 9 VPLL (power), 10 AGND (power), 11 GND (power), 12 VCORE (power), 13 TEST (in), 14 ~{RESET} (in), 15 GND (power), 16 AD0(TXD) (io), 17 AD1(RXD) (io), 18 AD2(RTS) (io), 19 AD3(CTS) (io), 20 VCCIO (power), 21 AD4 (io), 22 AD5 (io), 23 AD6 (io), 24 AD7 (io), 25 GND (power), 26 AC0 (io), 27 AC1 (io), 28 AC2 (io), 29 AC3(RXLED) (io), 30 AC4(TXLED) (io), 31 VCCIO (power), 32 AC5 (io), 33 AC6 (io), 34 AC7 (io), 35 GND (power), 36 ~{SUSPEND} (out), 37 VCORE (power), 38 BD0(TXD) (io), 39 BD1(RXD) (io), 40 BD2(RTS) (io), 41 BD3(CTS) (io), 42 VCCIO (power), 43 BD4 (io), 44 BD5 (io), 45 BD6 (io), 46 BD7 (io), 47 GND (power), 48 BC0 (io), 49 VREGOUT (power), 50 VREGIN (power), 51 GND (power), 52 BC1 (io), 53 BC2 (io), 54 BC3(RXLED) (io), 55 BC4(TXLED) (io), 56 VCCIO (power), 57 BC5 (io), 58 BC6 (io), 59 BC7 (io), 60 ~{PWREN} (out), 61 EEDATA (io), 62 EECLK (out), 63 EECS (io), 64 VCORE (power)

## GL8088s
designator A?  (value not drawn)
MODULE RADIO GPS/GLONASS; Описание: ???; NumberSolderPointsSMD: 0; Аналог: нет; NumberSolderPointsTHT: 0
footprint GL8088s
pins: 1 GNDA (power), 2 GNDA (power), 3 RFIN (in), 4 GNDA (power), 5 GNDA (power), 6 GNDA (power), 7 GNDA (power), 8 GND (power), 9 GND (power), 10 VDD (power), 11 ENA (in), 12 RXD0 (in), 13 TXD0 (out), 14 RXD1 (in), 15 TXD1 (out), 16 PPS, 17 VBAT (power), 18 GND (power), 19 ~{RST} (in), 20 GND (power), 21 VDD (power), 22 GND (power), 27 GNDA (power)

## GMS-G6
designator A?
MODULE RADIO GPS/GLONASS; Аналог: нет; Описание: Радио-модуль
footprint GMS-G6
pins: 0 GND, 1 VCC, 2 ~{RESET} (in), 3 GND, 4 Vbackup, 5 3Dfix (out), 8 GND, 9 TX0 (out), 10 RX0 (in), 12 GND, 13 1PPS (out), 14 RX1 (in), 15 TX1 (out), 19 GND

## GVXO-753F
designator G?
OSCILLATOR VCXO; Описание: Кварц. генератор SMD; NumberSolderPointsSMD: 0; Аналог: нет; NumberSolderPointsTHT: 0
footprint GVXO-753F
pins: 1 CTRL (in), 2 ON (in), 3 GND (power), 4 OUT (out), 6 Vcc (power)

## H2019NL
designator T?
MAGNETIC 10/100BASE-TX Magnetic Module (PoE); Описание: Трансформатор SO16; NumberSolderPointsSMD: 0; Аналог: нет; NumberSolderPointsTHT: 0
footprint SO16W_H2019NL
pins: 1  , 2  , 3  , 4 NC hidden, 5 NC hidden, 6  , 7  , 8  , 9, 10  , 11  , 12 NC hidden, 13 NC hidden, 14  , 15  , 16  
text: TD+; TD-; chip; media; RD+; RD-

## HARTING-09241206571
designator X?  (value not drawn)
CONNECTOR DIN41612 20-pin male connector without flange; Описание: ???; NumberSolderPointsSMD: 0; Аналог: нет; NumberSolderPointsTHT: 0
footprint HARTING-09241206571
pins: A1  , A2  , A3  , A4  , A5  , A6  , A7  , A8  , A9  , A10  , B1  , B2  , B3  , B4  , B5  , B6  , B7  , B8  , B9  , B10  

## HARTING-09242206824
designator X?  (value not drawn)
CONNECTOR DIN41612 20-pin female connector with flange; Описание: ???; NumberSolderPointsSMD: 0; Аналог: нет; NumberSolderPointsTHT: 0
footprint HARTING-09242206824
pins: A1  , A2  , A3  , A4  , A5  , A6  , A7  , A8  , A9  , A10  , B1  , B2  , B3  , B4  , B5  , B6  , B7  , B8  , B9  , B10  

## HFBR-1414xZ
designator A?
CONNECTOR FIBER 820 nm ST-connector transmitter; Описание: ???; NumberSolderPointsSMD: 0; Аналог: нет; NumberSolderPointsTHT: 0
footprint HFBR-x41xZ
pins: 2, 3, 6, 7

## HFBR-2412xZ
designator A?
CONNECTOR FIBER 820 nm ST-connector receiver; Описание: ???; NumberSolderPointsSMD: 0; Аналог: нет; NumberSolderPointsTHT: 0
footprint HFBR-x41xZ
pins: 2 (power), 3 (power), 6 (out), 7 (power)

## HR911105A
designator X?
CONNECTOR RJ45; Описание: Разъем; NumberSolderPointsSMD: 0; Аналог: нет; NumberSolderPointsTHT: 0
footprint HR911105A
pins: 1 TD+, 2 TD-, 3 RD+, 4 TD, 5 RD, 6 RD-, 8 GND, 9 LEDG+, 10 LEDG-, 11 LEDY-, 12 LEDY+, 13 SHLD
text: J8; 1:1; J7; J6 RX-; J5; J4; J3 RX+; J2 TX-; J1 TX+; 1000pF/2kV; 4x75W

## IHLP-2525CZ
designator L?, comment ???
MAGNETIC Inductor SMD 2525 h=3mm; Описание: Индуктивность SMD 2525; NumberSolderPointsSMD: 0; Аналог: нет; NumberSolderPointsTHT: 0
footprint IHLP-2525DZ(manual/normal)
pins: 1, 2

## IHLP-4040DZ
designator L?, comment ???
MAGNETIC Inductor SMD 4040 h=4mm; Описание: Индуктивность SMD 2525; NumberSolderPointsSMD: 0; Аналог: нет; NumberSolderPointsTHT: 0
footprint IHLP-4040DZ(manual/normal)
footprint IHLP-4040DZ(manual/deep1.5mm)
pins: 1, 2

## IM__GR
designator K?
RELAY smd signal relay; Описание: Реле; NumberSolderPointsSMD: 0; x: IM03GR(5VDC), IM01GR (3VDC); NumberSolderPointsTHT: 0
footprint IMxxGR
pins: 1, 2, 3, 4, 5, 6, 7, 8
text: +

## INA21xAIDCK
designator DA?
IC current shunt monitor; Описание: ???; NumberSolderPointsSMD: 0; Аналог: нет; NumberSolderPointsTHT: 0
footprint SC70-6
pins: 1 REF, 2 GND, 3 V+, 4 IN+, 5 IN- (power), 6 OUT (power)

## INA138NA
designator VA?
IC High-Side Current Shunt Monitor 2.7...36V; Описание: Микросхема SOT23-5; NumberSolderPointsSMD: 0; Аналог: нет; x: INA138; NumberSolderPointsTHT: 0
footprint SOT23-5
pins: 1 OUT (out), 2 GND (power), 3 Vin+ (in), 4 Vin- (in), 5 V+ (power)

## InductorB82464
designator L?, comment ???
MAGNETIC Epcos B82464 Inductor SMD 10.4x10.4mm; NumberSolderPointsSMD: 0; Аналог: нет; Описание: ???; NumberSolderPointsTHT: 0
footprint B82464
pins: 1, 2

## InductorB82477
designator L?, comment ???
MAGNETIC Epcos B82477 Inductor SMD 12.8x12.8mm; Описание: Индуктивность; NumberSolderPointsSMD: 0; Аналог: нет; NumberSolderPointsTHT: 0
footprint B82477
pins: 1, 2

## InductorSMD0603
designator L?, comment ???
MAGNETIC Inductor SMD 0603; Описание: Индуктивность SMD0603; NumberSolderPointsSMD: 0; Аналог: нет; NumberSolderPointsTHT: 0
footprint InductorSMD0603(reflow)
footprint InductorSMD0603(manual)
pins: 1, 2

## InductorSMD0805
designator L?, comment ???
MAGNETIC Inductor SMD 0805; NumberSolderPointsSMD: 0; Аналог: Индуктивность SMD0805; Описание: ???; NumberSolderPointsTHT: 0
footprint InductorSMD0805(reflow)
pins: 1, 2

## InductorSMD1210
designator L?, comment ???
MAGNETIC Inductor SMD 1210; Описание: Индуктивность SMD1210; NumberSolderPointsSMD: 0; x: LQH32CN4R7; NumberSolderPointsTHT: 0
footprint InductorSMD1210(reflow)
footprint InductorSMD1210(manual,LQH32)
pins: 1, 2

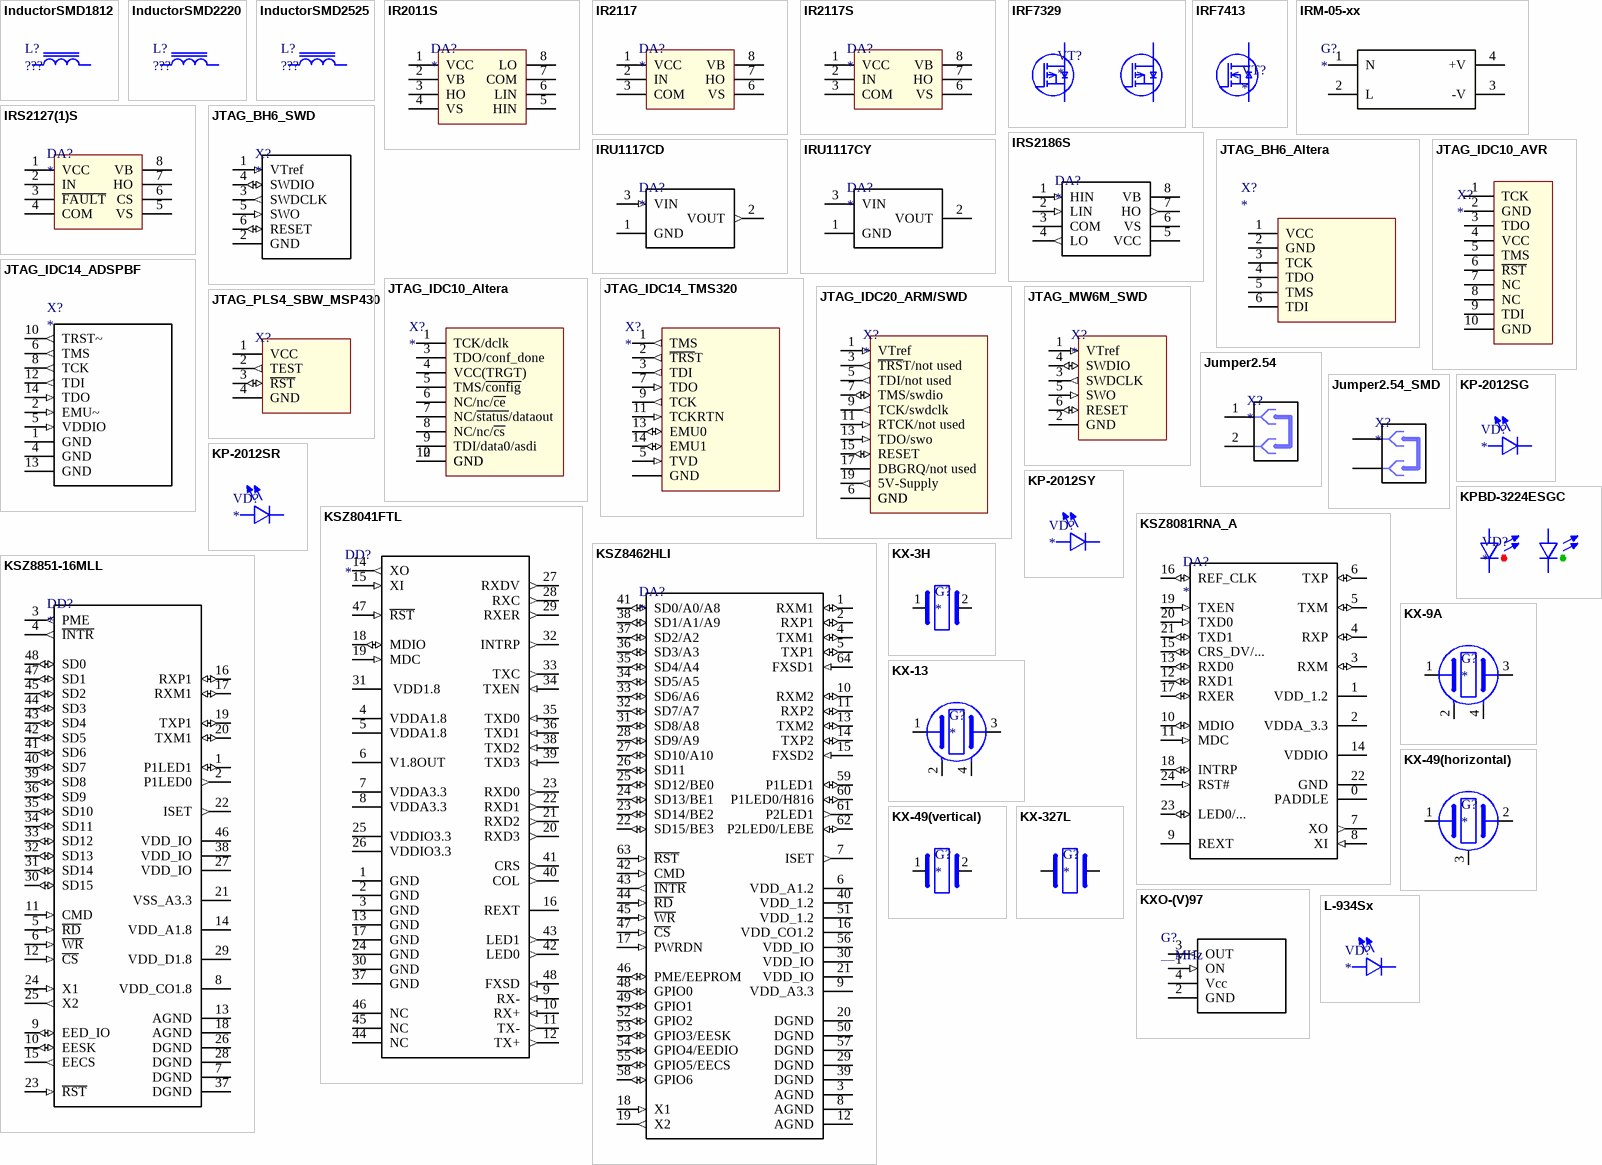
[diagram p12: symbols InductorSMD1812 to L-934Sx]

## InductorSMD1812
designator L?, comment ???
MAGNETIC Inductor SMD 1812; NumberSolderPointsSMD: 0; Аналог: нет; Описание: ???; NumberSolderPointsTHT: 0
pins: 1, 2

## InductorSMD2220
designator L?, comment ???
MAGNETIC Inductor SMD 2220; NumberSolderPointsSMD: 0; Аналог: нет; Описание: ???; NumberSolderPointsTHT: 0
footprint InductorSMD2220
pins: 1, 2

## InductorSMD2525
designator L?, comment ???
MAGNETIC Inductor SMD 2525; Описание: Индуктивность SMD 2525; NumberSolderPointsSMD: 0; Аналог: нет; NumberSolderPointsTHT: 0
footprint InductorSMD2525
pins: 1, 2

## IR2011S
designator DA?
IC High and low side gate driver; Описание: ???; NumberSolderPointsSMD: 0; Аналог: нет; NumberSolderPointsTHT: 0
footprint SO8
pins: 1 VCC, 2 VB, 3 HO, 4 VS, 5 HIN, 6 LIN, 7 COM, 8 LO

## IR2117
designator DA?
IC Single channel gate driver; Описание: ???; NumberSolderPointsSMD: 0; Аналог: нет; NumberSolderPointsTHT: 0
footprint DIP8_ATTINY13
pins: 1 VCC, 2 IN, 3 COM, 6 VS, 7 HO, 8 VB

## IR2117S
designator DA?
IC Single channel gate driver; Описание: ???; NumberSolderPointsSMD: 0; Аналог: нет; NumberSolderPointsTHT: 0
footprint SO8
pins: 1 VCC, 2 IN, 3 COM, 6 VS, 7 HO, 8 VB

## IRF7329
designator VT?
TRANSISTOR MOSFET dual P; Описание: ???; NumberSolderPointsSMD: 0; Аналог: нет; NumberSolderPointsTHT: 0
footprint SO8
pins: 1 S, 2 G, 3 S, 4 G, 5 D, 6 D, 7 D, 8 D

## IRF7413
designator VT?
TRANSISTOR MOSFET N 30V 0.01ohm; Описание: Транзистор SO8; NumberSolderPointsSMD: 0; Аналог: нет; NumberSolderPointsTHT: 0
footprint SO8
pins: 1 S, 2 S, 3 S, 4 G, 5 D, 6 D, 7 D, 8 D

## IRM-05-xx
designator G?
MODULE POWER AC/DC 5W; Описание: ???; NumberSolderPointsSMD: 0; Аналог: нет; NumberSolderPointsTHT: 0
footprint IRM-05
pins: 1 N (power), 2 L (power), 3 -V (power), 4 +V (power)

## IRS2127(1)S
designator DA?
IC Single channel gate driver; Описание: ???; NumberSolderPointsSMD: 0; Аналог: нет; NumberSolderPointsTHT: 0
footprint SO8
pins: 1 VCC, 2 IN, 3 ~{FAULT}, 4 COM, 5 VS, 6 CS, 7 HO, 8 VB

## IRS2186S
designator DA?
IC High and Low Side  Driver; Описание: Микросхема SO8; NumberSolderPointsSMD: 8; NumberSolderPointsTHT: 0; Аналог: нет
footprint SO8
pins: 1 HIN (in), 2 LIN (in), 3 COM (power), 4 LO (out), 5 VCC (power), 6 VS (power), 7 HO (out), 8 VB (power)

## IRU1117CD
designator DA?
IC POWER LDO; Описание: ???; NumberSolderPointsSMD: 0; Аналог: нет; NumberSolderPointsTHT: 0
footprint DPAK
pins: 1 GND (power), 2 VOUT (out), 3 VIN (in)

## IRU1117CY
designator DA?
IC POWER LDO; Описание: ???; NumberSolderPointsSMD: 0; Аналог: LM117MP; NumberSolderPointsTHT: 0
footprint SOT223
pins: 1 GND, 2 VOUT, 3 VIN

## JTAG_BH6_Altera
designator X?
CONNECTOR PROGRAM  Altera ByteBlaster 10-Pin Header JTAG/PS/AS; Описание: ???; NumberSolderPointsSMD: 0; Аналог: нет; NumberSolderPointsTHT: 0
footprint BH-6 Naked
pins: 1 VCC, 2 GND, 3 TCK, 4 TDO, 5 TMS, 6 TDI

## JTAG_BH6_SWD
designator X?
CONNECTOR PROGRAM 6-pin SWD connector; Описание: ???; NumberSolderPointsSMD: 0; Аналог: нет; NumberSolderPointsTHT: 0
footprint BH-6 Naked
pins: 1 VTref (in), 2 GND (power), 3 SWDCLK (out), 4 SWDIO (io), 5 SWO (in), 6 RESET (io)

## JTAG_IDC10_Altera
designator X?
CONNECTOR PROGRAM  Altera ByteBlaster 10-Pin Header JTAG/PS/AS; Описание: ???; NumberSolderPointsSMD: 0; Аналог: нет; NumberSolderPointsTHT: 0
footprint BH-10 NAKED
pins: 1 TCK/dclk, 2 GND, 3 TDO/conf_done, 4 VCC(TRGT), 5 TMS/~{config}, 6 NC/nc/~{ce}, 7 NC/~{status}/dataout, 8 NC/nc/~{cs}, 9 TDI/data0/asdi, 10 GND

## JTAG_IDC10_AVR
designator X?
CONNECTOR PROGRAM Atmel AVR 10-Pin Header JTAG (AVR-Dragon); Описание: ???; NumberSolderPointsSMD: 0; Аналог: нет; NumberSolderPointsTHT: 0
footprint BH-10
pins: 1 TCK, 2 GND, 3 TDO, 4 VCC, 5 TMS, 6 ~{RST}, 7 NC, 8 NC, 9 TDI, 10 GND

## JTAG_IDC14_ADSPBF
designator X?  (no BOM)
CONNECTOR PROGRAM 14-pin JTAG connector for ADSP Blackfin; Описание: ???; NumberSolderPointsSMD: 0; Аналог: нет; NumberSolderPointsTHT: 0
footprint JTAG_IDC14_ADSPBF
footprint JTAG_IDC14_ADSPBF(notSoldered)
pins: 1 GND (power), 2 EMU~ (in), 4 GND (power), 5 VDDIO (in), 6 TMS (out), 8 TCK (out), 10 TRST~ (out), 12 TDI (out), 13 GND (power), 14 TDO (in)

## JTAG_IDC14_TMS320
designator X?
CONNECTOR PROGRAM 14-pin JTAG connector for TMS320/OMAP; Описание: ???; NumberSolderPointsSMD: 0; Аналог: нет; NumberSolderPointsTHT: 0
footprint JTAG_IDC14_TMS320
pins: 1 TMS (out), 2 ~{TRS}T (out), 3 TDI (out), 4 GND (power), 5 TVD (in), 7 TDO (in), 8 GND, 9 TCK (out), 10 GND, 11 TCKRTN (in), 12 GND, 13 EMU0 (io), 14 EMU1 (io)

## JTAG_IDC20_ARM/SWD
designator X?
CONNECTOR PROGRAM 20-pin JTAG/SWD connector; Описание: ???; NumberSolderPointsSMD: 0; Аналог: нет; NumberSolderPointsTHT: 0
footprint BH-20
pins: 1 VTref (in), 3 ~{TRS}T/not used (out), 4 GND (power), 5 TDI/not used (out), 6 GND (power), 7 TMS/swdio (io), 8 GND (power), 9 TCK/swdclk (out), 10 GND (power), 11 RTCK/not used (in), 12 GND (power), 13 TDO/swo (in), 14 GND (power), 15 RESET (io), 16 GND (power), 17 DBGRQ/not used, 18 GND (power), 19 5V-Supply (out), 20 GND (power)

## JTAG_MW6M_SWD
designator X?
CONNECTOR PROGRAM 5-pin SWD connector; Описание: ???; NumberSolderPointsSMD: 0; Аналог: нет; NumberSolderPointsTHT: 0
footprint MW-6M
pins: 1 VTref (in), 2 GND (power), 3 SWDCLK (out), 4 SWDIO (io), 5 SWO (in), 6 RESET (io)

## JTAG_PLS4_SBW_MSP430
designator X?  (value not drawn)
CONNECTOR PROGRAM SBW for MSP430; Описание: ???; NumberSolderPointsSMD: 0; Аналог: нет; NumberSolderPointsTHT: 0
footprint PLS-4
pins: 1 VCC (power), 2 TEST (out), 3 ~{RST} (io), 4 GND (power)

## Jumper2.54
designator X?
SWITCH Jumper 2.54mm pitch; Описание: ???; NumberSolderPointsSMD: 0; Аналог: нет; NumberSolderPointsTHT: 0
footprint Jumper2.54
pins: 1, 2

## Jumper2.54_SMD
designator X?
SWITCH Jumper 2.54mm pitch; Описание: ???; NumberSolderPointsSMD: 0; Аналог: нет; NumberSolderPointsTHT: 0
footprint Jumper2.54_SMD
pins: 1, 2

## KP-2012SG
designator VD?
LED 0805 super bright green; Описание: Светодиод SMD 0805; NumberSolderPointsSMD: 0; Аналог: нет; NumberSolderPointsTHT: 0
footprint KP-2012SG (SMD0805 LED)
pins: 1 A, 2 K

## KP-2012SR
designator VD?
LED 0805 super bright red; Описание: Светодиод SMD 0805; NumberSolderPointsSMD: 0; Аналог: нет; NumberSolderPointsTHT: 0
footprint KP-2012SR (SMD0805 LED)
pins: 1 A, 2 K

## KP-2012SY
designator VD?
LED 0805 super bright yellow; Описание: Светодиод SMD 0805; NumberSolderPointsSMD: 0; Аналог: нет; NumberSolderPointsTHT: 0
footprint KP-2012SY (SMD0805 LED)
pins: 1 A, 2 K

## KPBD-3224ESGC
designator VD?
LED; Описание: Светодиод SMD; NumberSolderPointsSMD: 0; Аналог: нет; NumberSolderPointsTHT: 0
footprint KPBD-3224ESGC
pins: 1 A, 2 K, 3 A, 4 K

## KSZ8041FTL
designator DD?
IC 100Base-FX Physical Layer Transceiver; Описание: Микросхема TQFP48; NumberSolderPointsSMD: 0; Аналог: нет; NumberSolderPointsTHT: 0
footprint TQFP48_KSZ8041xTL
pins: 1 GND (power), 2 GND (power), 3 GND (power), 4 VDDA1.8 (power), 5 VDDA1.8 (power), 6 V1.8OUT (power), 7 VDDA3.3 (power), 8 VDDA3.3 (power), 9 RX- (in), 10 RX+ (in), 11 TX- (out), 12 TX+ (out), 13 GND (power), 14 XO (out), 15 XI (in) "/ REFCLK /CLOCK", 16 REXT, 17 GND (power), 18 MDIO (io), 19 MDC (in), 20 RXD3 (out) "/PHYAD0", 21 RXD2 (out) "/PHYAD1", 22 RXD1 (out) "/ RXD[1] /PHYAD2", 23 RXD0 (out) "/ RXD[0] / RXDUPLEX", 24 GND (power), 25 VDDIO3.3 (power), 26 VDDIO3.3 (power), 27 RXDV (out) "/ CRSDV /CONFIG2", 28 RXC (out), 29 RXER (out) "/ RX_ER /ISO", 30 GND (power), 31  VDD1.8 (power), 32 INTRP (out), 33 TXC (out), 34 TXEN (in) "/TX_EN", 35 TXD0 (in) "/ TXD[0] /TX", 36 TXD1 (in) "/ TXD[1] /SYNC", 37 GND (power), 38 TXD2 (in), 39 TXD3 (in), 40 COL (out) "/CONFIG0", 41 CRS (out) "/CONFIG1", 42 LED0 (out) "/NWAYEN/no FEF", 43 LED1 (out) "/SPEED", 44 NC, 45 NC, 46 NC, 47 ~{RST} (in), 48 FXSD (in) "/FXEN"

## KSZ8081RNA_A
designator DA?
IC Ethernet PHY; Описание: Микросхема QFN24; x: KSZ8081RNAIA/KSZ8081RNACAA - Industrial/(Commercial
footprint QFN24_KSZ
pins: 0 PADDLE (power), 1 VDD_1.2 (power), 2 VDDA_3.3 (power), 3 RXM (io), 4 RXP (io), 5 TXM (io), 6 TXP (io), 7 XO (out), 8 XI (in), 9 REXT, 10 MDIO (io), 11 MDC (in), 12 RXD1 (io), 13 RXD0 (io), 14 VDDIO (power), 15 CRS_DV/... (io), 16 REF_CLK (io), 17 RXER (io), 18 INTRP (io), 19 TXEN (in), 20 TXD0 (in), 21 TXD1 (io), 22 GND (power), 23 LED0/... (io), 24 RST# (in)

## KSZ8462HLI
designator DA?
IC ieee1588 3-port switch; Аналог: нет; Описание: ???
footprint LQFP64_KSZ8462
pins: 1 RXM1 (io), 2 RXP1 (io), 3 AGND (power), 4 TXM1 (io), 5 TXP1 (io), 6 VDD_A1.2 (power), 7 ISET (out), 8 AGND (power), 9 VDD_A3.3 (power), 10 RXM2 (io), 11 RXP2 (io), 12 AGND (power), 13 TXM2 (io), 14 TXP2 (io), 15 FXSD2 (in), 16 VDD_CO1.2 (power), 17 PWRDN (in), 18 X1 (in), 19 X2 (out), 20 DGND (power), 21 VDD_IO (power), 22 SD15/BE3 (io), 23 SD14/BE2 (io), 24 SD13/BE1 (io), 25 SD12/BE0 (io), 26 SD11 (io), 27 SD10/A10 (io), 28 SD9/A9 (io), 29 DGND (power), 30 VDD_IO (power), 31 SD8/A8 (io), 32 SD7/A7 (io), 33 SD6/A6 (io), 34 SD5/A5 (io), 35 SD4/A4 (io), 36 SD3/A3 (io), 37 SD2/A2 (io), 38 SD1/A1/A9 (io), 39 DGND (power), 40 VDD_1.2 (power), 41 SD0/A0/A8 (io), 42 CMD (in), 43 ~{INTR} (out), 44 ~{RD} (in), 45 ~{WR} (in), 46 PME/EEPROM (io), 47 ~{CS} (in), 48 GPIO0 (io), 49 GPIO1 (io), 50 DGND (power), 51 VDD_1.2 (power), 52 GPIO2 (io), 53 GPIO3/EESK (io), 54 GPIO4/EEDIO (io), 55 GPIO5/EECS (io), 56 VDD_IO (power), 57 DGND (power), 58 GPIO6 (io), 59 P1LED1 (io), 60 P1LED0/H816 (io), 61 P2LED1 (out), 62 P2LED0/LEBE (io), 63 ~{RST} (in), 64 FXSD1 (in)

## KSZ8851-16MLL
designator DD?
IC Ethernet controller; Аналог: нет; Описание: ???
footprint TQFP48_KSZ8041xTL
pins: 1 P1LED1 (io), 2 P1LED0 (out), 3 PME (out), 4 ~{INTR} (out), 5 ~{RD} (in), 6 ~{WR} (in), 7 DGND (power), 8 VDD_CO1.8 (power), 9 EED_IO (io), 10 EESK (io), 11 CMD (in), 12 ~{CS} (in), 13 AGND (power), 14 VDD_A1.8 (power), 15 EECS (out), 16 RXP1 (io), 17 RXM1 (io), 18 AGND (power), 19 TXP1 (io), 20 TXM1 (io), 21 VSS_A3.3 (power), 22 ISET (out), 23 ~{RST} (in), 24 X1 (in), 25 X2 (out), 26 DGND (power), 27 VDD_IO (power), 28 DGND (power), 29 VDD_D1.8 (power), 30 SD15 (io), 31 SD14 (io), 32 SD13 (io), 33 SD12 (io), 34 SD11 (io), 35 SD10 (io), 36 SD9 (io), 37 DGND (power), 38 VDD_IO (power), 39 SD8 (io), 40 SD7 (io), 41 SD6 (io), 42 SD5 (io), 43 SD4 (io), 44 SD3 (io), 45 SD2 (io), 46 VDD_IO (power), 47 SD1 (io), 48 SD0 (io)

## KX-3H
designator G?
OSCILLATOR Geyer Quartz Crystal HC-49/U3H (low profile); Описание: ???; NumberSolderPointsSMD: 0; Аналог: нет; NumberSolderPointsTHT: 0
footprint HC-49/U3H
pins: 1, 2

## KX-9A
designator G?
OSCILLATOR Quartz Crystal 5x3.2mm; Описание: Кварцевый резонатор; NumberSolderPointsSMD: 4; NumberSolderPointsTHT: 0; Аналог: нет
footprint KX-9A
pins: 1, 2, 3, 4

## KX-13
designator G?
OSCILLATOR Quartz Crystal 7x5.08mm; Описание: ???; NumberSolderPointsSMD: 0; Аналог: нет; NumberSolderPointsTHT: 0
footprint KX-13
pins: 1, 2, 3, 4

## KX-49(horizontal)
designator G?
OSCILLATOR Geyer Quartz Crystal HC-49/U; Описание: ???; NumberSolderPointsSMD: 0; Аналог: нет; NumberSolderPointsTHT: 0
footprint HC-49/U(horizontal) (horizontal)
pins: 1, 2, 3

## KX-49(vertical)
designator G?
OSCILLATOR Geyer Quartz Crystal HC-49/U; Описание: ???; NumberSolderPointsSMD: 0; Аналог: нет; NumberSolderPointsTHT: 0
footprint HC-49/U(vertical) (vertical)
pins: 1, 2

## KX-327L
designator G?
OSCILLATOR Geyer Quartz Crystal HC-49/U3H (low profile); Описание: Кварц. резонатор SMD; NumberSolderPointsSMD: 0; Аналог: нет; NumberSolderPointsTHT: 0
footprint KX–327L
pins: 1, 4

## KXO-(V)97
designator G?, comment __MHz
OSCILLATOR Clock Oscillator; Описание: Кварц. генератор SMD; NumberSolderPointsSMD: 0; Аналог: нет; x: KXO-V97 24MHz; NumberSolderPointsTHT: 0
footprint KXO-97
pins: 1 ON (in), 2 GND (power), 3 OUT (out), 4 Vcc (power)

## L-934Sx
designator VD?
LED 3mm superbright LED; Описание: Светодиод 3мм красный; NumberSolderPointsSMD: 0; Аналог: нет; NumberSolderPointsTHT: 0
footprint L-934Sx
footprint L-934Sx - right angle
pins: A 1, C 2

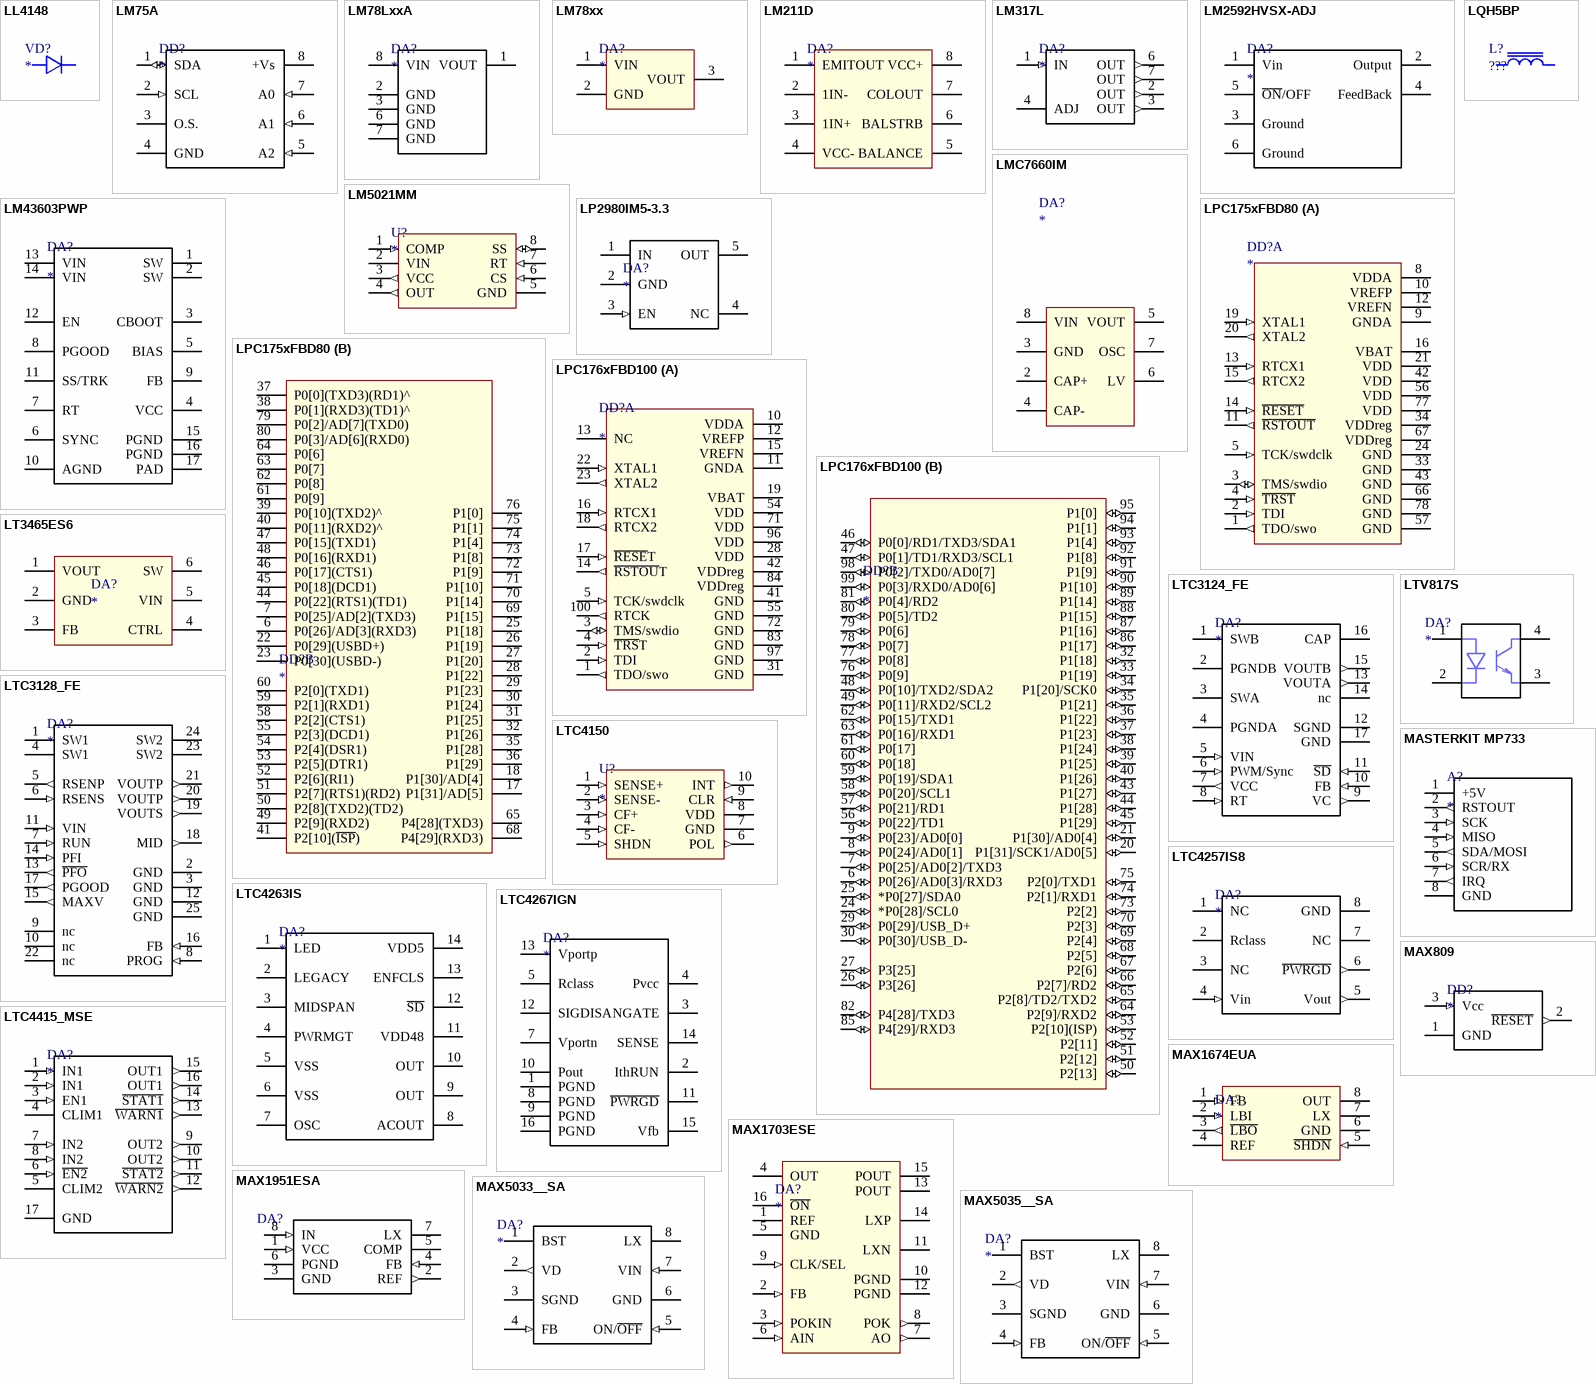
[diagram p13: symbols LL4148 to MAX5035__SA]

## LL4148
designator VD?
DIODE Small Signal Diode 100V 200mA; Описание: ???; NumberSolderPointsSMD: 0; Аналог: нет; NumberSolderPointsTHT: 0
footprint SOD80_LL4148
pins: 1, 2

## LM75A
designator DD?
IC Temperature sensor; Описание: Микросхема SO8; NumberSolderPointsSMD: 0; Аналог: нет; x: LM75AD,LM75AIM; NumberSolderPointsTHT: 0
footprint SO8
footprint SO8_FLIPPED
pins: 1 SDA (io), 2 SCL (in), 3 O.S. (oc), 4 GND (power), 5 A2 (in), 6 A1 (in), 7 A0 (in), 8 +Vs (power)

## LM78LxxA
designator DA?
IC 3-Terminal 1A Positive Voltage Regulator; Описание: Микросхема SO8; NumberSolderPointsSMD: 0; Аналог: нет; NumberSolderPointsTHT: 0
footprint SO8
footprint SOIC-8-150mil-COMPACT
pins: 1 VOUT, 2 GND, 3 GND, 6 GND, 7 GND, 8 VIN

## LM78xx
designator DA?
IC 3-Terminal 1A Positive Voltage Regulator; Описание: Микросхема TO220; NumberSolderPointsSMD: 0; Аналог: нет; NumberSolderPointsTHT: 0
footprint TO220
pins: 1 VIN, 2 GND, 3 VOUT

## LM211D
designator DA?
IC comparator with strobe; Описание: ???; NumberSolderPointsSMD: 0; Аналог: нет; NumberSolderPointsTHT: 0
footprint SO8
pins: 1 EMITOUT, 2 1IN-, 3 1IN+, 4 VCC-, 5 BALANCE, 6 BALSTRB, 7 COLOUT, 8 VCC+

## LM317L
designator DA?
IC 3-Terminal 1A Positive Voltage Regulator; Описание: ???; NumberSolderPointsSMD: 0; Аналог: нет; NumberSolderPointsTHT: 0
footprint SO8
pins: 1 IN (in), 2 OUT (out), 3 OUT (out), 4 ADJ, 6 OUT (out), 7 OUT (out)

## LM2592HVSX-ADJ
designator DA?
IC POWER 150 kHz 2A Step-Down up to 57V; Описание: ???
footprint TO263-5
pins: 1 Vin, 2 Output, 3 Ground, 4 FeedBack, 5 ~{ON}/OFF, 6 Ground

## LM5021MM
designator U?
IC AC-DC Current Mode PWM Controller; Описание: ???; NumberSolderPointsSMD: 0; Аналог: нет; NumberSolderPointsTHT: 0
footprint MSOP8_LM5021MM
pins: 1 COMP (in), 2 VIN (power), 3 VCC (out), 4 OUT (out), 5 GND (power), 6 CS (in), 7 RT (in), 8 SS (io)

## LM43603PWP
designator DA?
IC POWER 3.5V to 36V 3A Synchronous Step-Down Voltage Converter; Описание: Микросхема TSSOP16; Аналог: нет
footprint HTSSOP16_LM43603
pins: 1 SW, 2 SW, 3 CBOOT, 4 VCC, 5 BIAS, 6 SYNC, 7 RT, 8 PGOOD, 9 FB, 10 AGND, 11 SS/TRK, 12 EN, 13 VIN, 14 VIN, 15 PGND, 16 PGND, 17 PAD

## LMC7660IM
designator DA?
IC POWER switched capacitor voltage converter; Описание: ???; NumberSolderPointsSMD: 0; Аналог: нет; NumberSolderPointsTHT: 0
footprint SO8
footprint SOIC-8-150mil-COMPACT
pins: 2 CAP+, 3 GND, 4 CAP-, 5 VOUT, 6 LV, 7 OSC, 8 VIN

## LP2980IM5-3.3
designator DA?
IC POWER LDO; Описание: Микросхема SOT23-5; NumberSolderPointsSMD: 0; Аналог: нет; NumberSolderPointsTHT: 0
footprint SOT23-5
pins: 1 IN (power), 2 GND (power), 3 EN (in), 4 NC (power), 5 OUT (power)

## LPC175xFBD80
designator DD?
IC 32-bit ARM Cortex-M3 microcontroller; Описание: ???; NumberSolderPointsSMD: 0; Аналог: нет; NumberSolderPointsTHT: 0
footprint TQFP80
part A pins: 1 TDO/swo (out), 2 TDI (in), 3 TMS/swdio (io), 4 ~{TRST} (in), 5 TCK/swdclk (in), 8 VDDA, 9 GNDA, 10 VREFP, 11 ~{RSTOUT} (out), 12 VREFN, 13 RTCX1 (in), 14 ~{RESET} (in), 15 RTCX2 (out), 16 VBAT, 19 XTAL1 (in), 20 XTAL2 (out), 21 VDD, 24 GND, 33 GND, 34 VDDreg, 42 VDD, 43 GND, 56 VDD, 57 GND, 66 GND, 67 VDDreg, 77 VDD, 78 GND
part B pins: 6 P0[26]/AD[3](RXD3), 7 P0[25]/AD[2](TXD3), 17 P1[31]/AD[5], 18 P1[30]/AD[4], 22 P0[29](USBD+), 23 P0[30](USBD-), 25 P1[18], 26 P1[19], 27 P1[20], 28 P1[22], 29 P1[23], 30 P1[24], 31 P1[25], 32 P1[26], 35 P1[28], 36 P1[29], 37 P0[0](TXD3)(RD1)^, 38 P0[1](RXD3)(TD1)^, 39 P0[10](TXD2)^ (oc), 40 P0[11](RXD2)^, 41 P2[10](~{ISP}), 44 P0[22](RTS1)(TD1), 45 P0[18](DCD1), 46 P0[17](CTS1), 47 P0[15](TXD1), 48 P0[16](RXD1), 49 P2[9](RXD2), 50 P2[8](TXD2)(TD2), 51 P2[7](RTS1)(RD2), 52 P2[6](RI1), 53 P2[5](DTR1), 54 P2[4](DSR1), 55 P2[3](DCD1), 58 P2[2](CTS1), 59 P2[1](RXD1), 60 P2[0](TXD1), 61 P0[9], 62 P0[8], 63 P0[7], 64 P0[6], 65 P4[28](TXD3), 68 P4[29](RXD3), 69 P1[15], 70 P1[14], 71 P1[10], 72 P1[9], 73 P1[8], 74 P1[4], 75 P1[1], 76 P1[0], 79 P0[2]/AD[7](TXD0), 80 P0[3]/AD[6](RXD0)